# Altium integrated library Actel ACT 2.IntLib: 87 symbols (part 3 of 5)
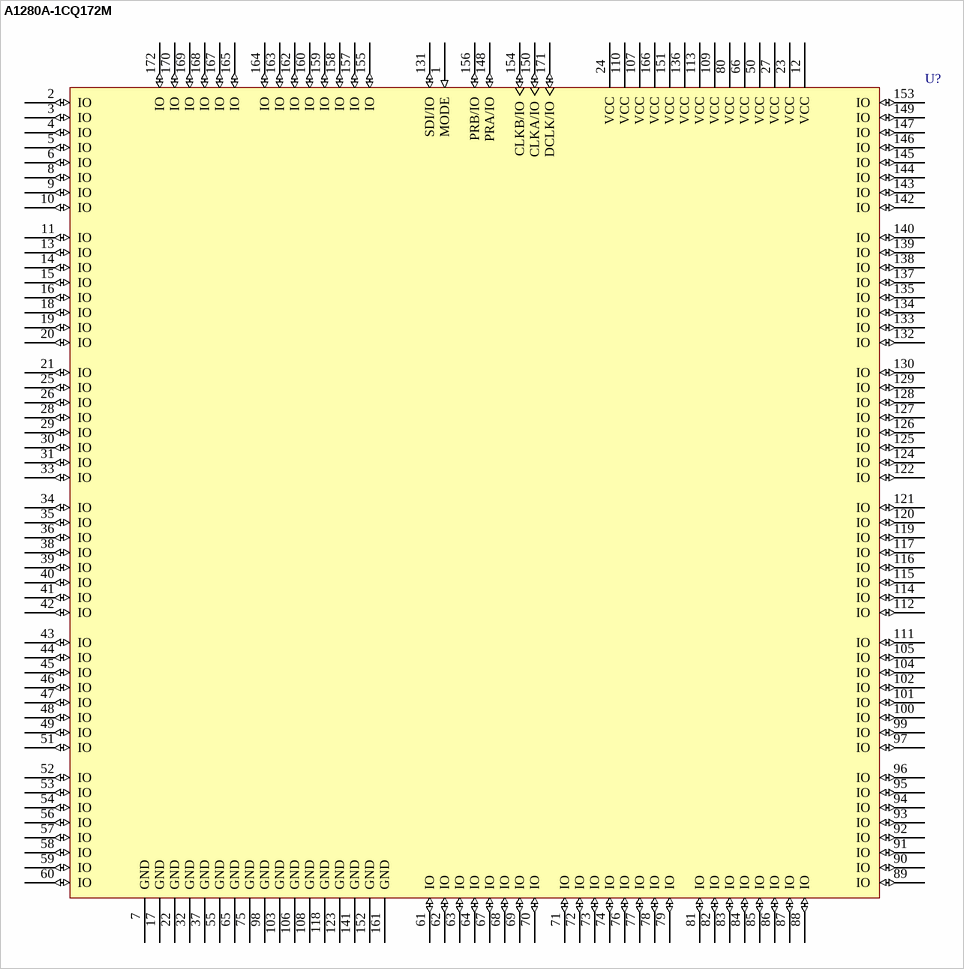
[diagram p63: symbol A1280A-1CQ172M]

## A1280A-1CQ172M
designator U?
ACT 2 Series 5V FPGA, 140 User I/Os, 172 pin CQFP, Speed Grade 1, Military Grade; Published: 24-Nov-2000; LatestRevisionDate: 13-Apr-2006; LatestRevisionNote: IPC-7351 Footprint Added.; DatasheetVersion: ver4.0.1, Dec-2000; PackageVersion: v9.2, Apr-2006; PackageReference: CQ172; Publisher: Altium Limited; PackageDescription: 172-Pin Ceramic Quad Flat Pack (CQFP); Code_JEDEC: MO-113-AE; ComponentLink1Description: Manufacturer Link; ComponentLink1URL: http://www.actel.com/; ComponentLink2Description: DataSheet; ComponentLink2URL: http://www.actel.com/documents/ACT2DS.pdf
footprint CQ172_N (CQFP, 172-Leads, Body 30x30mm; Pitch 0.635mm, Gullwing Leadform, IPC Medium Density)
footprint CQ172_L (CQFP, 172-Leads, Body 30x30mm; Pitch 0.635mm, Gullwing Leadform, IPC High Density)
footprint CQ172_M (CQFP, 172-Leads, Body 30x30mm; Pitch 0.635mm, Gullwing Leadform, IPC Low Density)
3D model A1280A-CQ172 (172-Pin Ceramic Quad Flat Pack (CQFP))
pins: 1 MODE (in), 2 IO (io), 3 IO (io), 4 IO (io), 5 IO (io), 6 IO (io), 7 GND (power), 8 IO (io), 9 IO (io), 10 IO (io), 11 IO (io), 12 VCC (power), 13 IO (io), 14 IO (io), 15 IO (io), 16 IO (io), 17 GND (power), 18 IO (io), 19 IO (io), 20 IO (io), 21 IO (io), 22 GND (power), 23 VCC (power), 24 VCC (power), 25 IO (io), 26 IO (io), 27 VCC (power), 28 IO (io), 29 IO (io), 30 IO (io), 31 IO (io), 32 GND (power), 33 IO (io), 34 IO (io), 35 IO (io), 36 IO (io), 37 GND (power), 38 IO (io), 39 IO (io), 40 IO (io), 41 IO (io), 42 IO (io), 43 IO (io), 44 IO (io), 45 IO (io), 46 IO (io), 47 IO (io), 48 IO (io), 49 IO (io), 50 VCC (power), 51 IO (io), 52 IO (io), 53 IO (io), 54 IO (io), 55 GND (power), 56 IO (io), 57 IO (io), 58 IO (io), 59 IO (io), 60 IO (io), 61 IO (io), 62 IO (io), 63 IO (io), 64 IO (io), 65 GND (power), 66 VCC (power), 67 IO (io), 68 IO (io), 69 IO (io), 70 IO (io), 71 IO (io), 72 IO (io), 73 IO (io), 74 IO (io), 75 GND (power), 76 IO (io), 77 IO (io), 78 IO (io), 79 IO (io), 80 VCC (power), 81 IO (io), 82 IO (io), 83 IO (io), 84 IO (io), 85 IO (io), 86 IO (io), 87 IO (io), 88 IO (io), 89 IO (io), 90 IO (io), 91 IO (io), 92 IO (io), 93 IO (io), 94 IO (io), 95 IO (io), 96 IO (io), 97 IO (io), 98 GND (power), 99 IO (io), 100 IO (io), 101 IO (io), 102 IO (io), 103 GND (power), 104 IO (io), 105 IO (io), 106 GND (power), 107 VCC (power), 108 GND (power), 109 VCC (power), 110 VCC (power), 111 IO (io), 112 IO (io), 113 VCC (power), 114 IO (io), 115 IO (io), 116 IO (io), 117 IO (io), 118 GND (power), 119 IO (io), 120 IO (io), 121 IO (io), 122 IO (io), 123 GND (power), 124 IO (io), 125 IO (io), 126 IO (io), 127 IO (io), 128 IO (io), 129 IO (io), 130 IO (io), 131 SDI/IO (io), 132 IO (io), 133 IO (io), 134 IO (io), 135 IO (io), 136 VCC (power), 137 IO (io), 138 IO (io), 139 IO (io), 140 IO (io), 141 GND (power), 142 IO (io), 143 IO (io), 144 IO (io), 145 IO (io), 146 IO (io), 147 IO (io), 148 PRA/IO (io), 149 IO (io), 150 CLKA/IO (io), 151 VCC (power), 152 GND (power), 153 IO (io), 154 CLKB/IO (io), 155 IO (io), 156 PRB/IO (io), 157 IO (io), 158 IO (io), 159 IO (io), 160 IO (io), 161 GND (power), 162 IO (io), 163 IO (io), 164 IO (io), 165 IO (io), 166 VCC (power), 167 IO (io), 168 IO (io), 169 IO (io), 170 IO (io), 171 DCLK/IO (io), 172 IO (io)

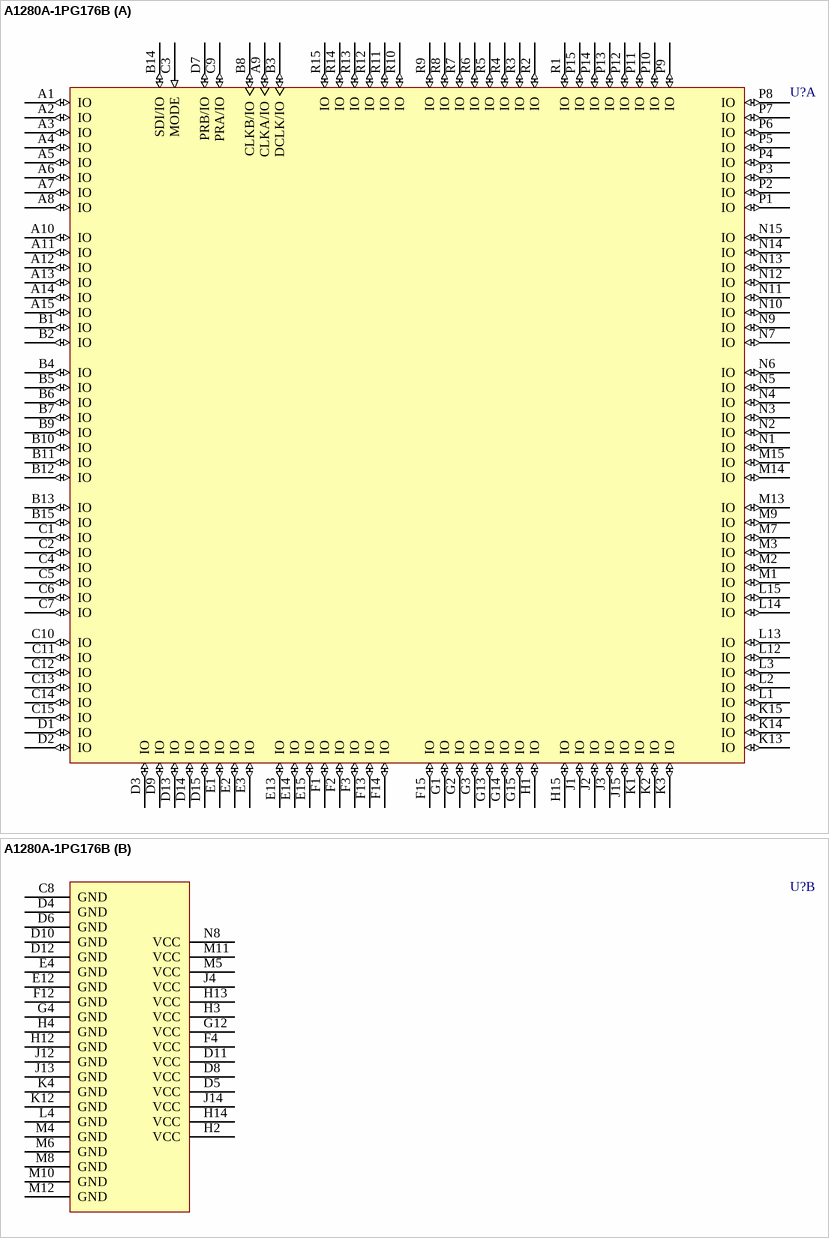
[diagram p21: symbol A1280A-1PG176B]

## A1280A-1PG176B
designator U?
ACT 2 Series 5V FPGA, 140 User I/Os, 176 pin CPGA, Speed Grade 1, MIL-STD-883 Grade; Published: 24-Nov-2000; LatestRevisionDate: 04-Mar-2005; LatestRevisionNote: Stylized 3D Model Added.; DatasheetVersion: ver4.0.1, Dec-2000; PackageVersion: v9.2, Apr-2006; PackageReference: PG176; Publisher: Altium Limited; PackageDescription: 176-Pin Ceramic Pin Grid Array (PG176); ComponentLink1Description: Manufacturer Link; ComponentLink1URL: http://www.actel.com/; ComponentLink2Description: DataSheet; ComponentLink2URL: http://www.actel.com/documents/ACT2DS.pdf
footprint PG176 (PGA, 176-Leads, Body 39.9x39.9mm, Pitch 2.54mm)
3D model A1280A-PG176 (176-Pin Ceramic Pin Grid Array (PG176))
part A pins: A1 IO (io), A2 IO (io), A3 IO (io), A4 IO (io), A5 IO (io), A6 IO (io), A7 IO (io), A8 IO (io), A9 CLKA/IO (io), A10 IO (io), A11 IO (io), A12 IO (io), A13 IO (io), A14 IO (io), A15 IO (io), B1 IO (io), B2 IO (io), B3 DCLK/IO (io), B4 IO (io), B5 IO (io), B6 IO (io), B7 IO (io), B8 CLKB/IO (io), B9 IO (io), B10 IO (io), B11 IO (io), B12 IO (io), B13 IO (io), B14 SDI/IO (io), B15 IO (io), C1 IO (io), C2 IO (io), C3 MODE (in), C4 IO (io), C5 IO (io), C6 IO (io), C7 IO (io), C9 PRA/IO (io), C10 IO (io), C11 IO (io), C12 IO (io), C13 IO (io), C14 IO (io), C15 IO (io), D1 IO (io), D2 IO (io), D3 IO (io), D7 PRB/IO (io), D9 IO (io), D13 IO (io), D14 IO (io), D15 IO (io), E1 IO (io), E2 IO (io), E3 IO (io), E13 IO (io), E14 IO (io), E15 IO (io), F1 IO (io), F2 IO (io), F3 IO (io), F13 IO (io), F14 IO (io), F15 IO (io), G1 IO (io), G2 IO (io), G3 IO (io), G13 IO (io), G14 IO (io), G15 IO (io), H1 IO (io), H15 IO (io), J1 IO (io), J2 IO (io), J3 IO (io), J15 IO (io), K1 IO (io), K2 IO (io), K3 IO (io), K13 IO (io), K14 IO (io), K15 IO (io), L1 IO (io), L2 IO (io), L3 IO (io), L12 IO (io), L13 IO (io), L14 IO (io), L15 IO (io), M1 IO (io), M2 IO (io), M3 IO (io), M7 IO (io), M9 IO (io), M13 IO (io), M14 IO (io), M15 IO (io), N1 IO (io), N2 IO (io), N3 IO (io), N4 IO (io), N5 IO (io), N6 IO (io), N7 IO (io), N9 IO (io), N10 IO (io), N11 IO (io), N12 IO (io), N13 IO (io), N14 IO (io), N15 IO (io), P1 IO (io), P2 IO (io), P3 IO (io), P4 IO (io), P5 IO (io), P6 IO (io), P7 IO (io), P8 IO (io), P9 IO (io), P10 IO (io), P11 IO (io), P12 IO (io), P13 IO (io), P14 IO (io), P15 IO (io), R1 IO (io), R2 IO (io), R3 IO (io), R4 IO (io), R5 IO (io), R6 IO (io), R7 IO (io), R8 IO (io), R9 IO (io), R10 IO (io), R11 IO (io), R12 IO (io), R13 IO (io), R14 IO (io), R15 IO (io)
part B pins: C8 GND (power), D4 GND (power), D5 VCC (power), D6 GND (power), D8 VCC (power), D10 GND (power), D11 VCC (power), D12 GND (power), E4 GND (power), E12 GND (power), F4 VCC (power), F12 GND (power), G4 GND (power), G12 VCC (power), H2 VCC (power), H3 VCC (power), H4 GND (power), H12 GND (power), H13 VCC (power), H14 VCC (power), J4 VCC (power), J12 GND (power), J13 GND (power), J14 VCC (power), K4 GND (power), K12 GND (power), L4 GND (power), M4 GND (power), M5 VCC (power), M6 GND (power), M8 GND (power), M10 GND (power), M11 VCC (power), M12 GND (power), N8 VCC (power)

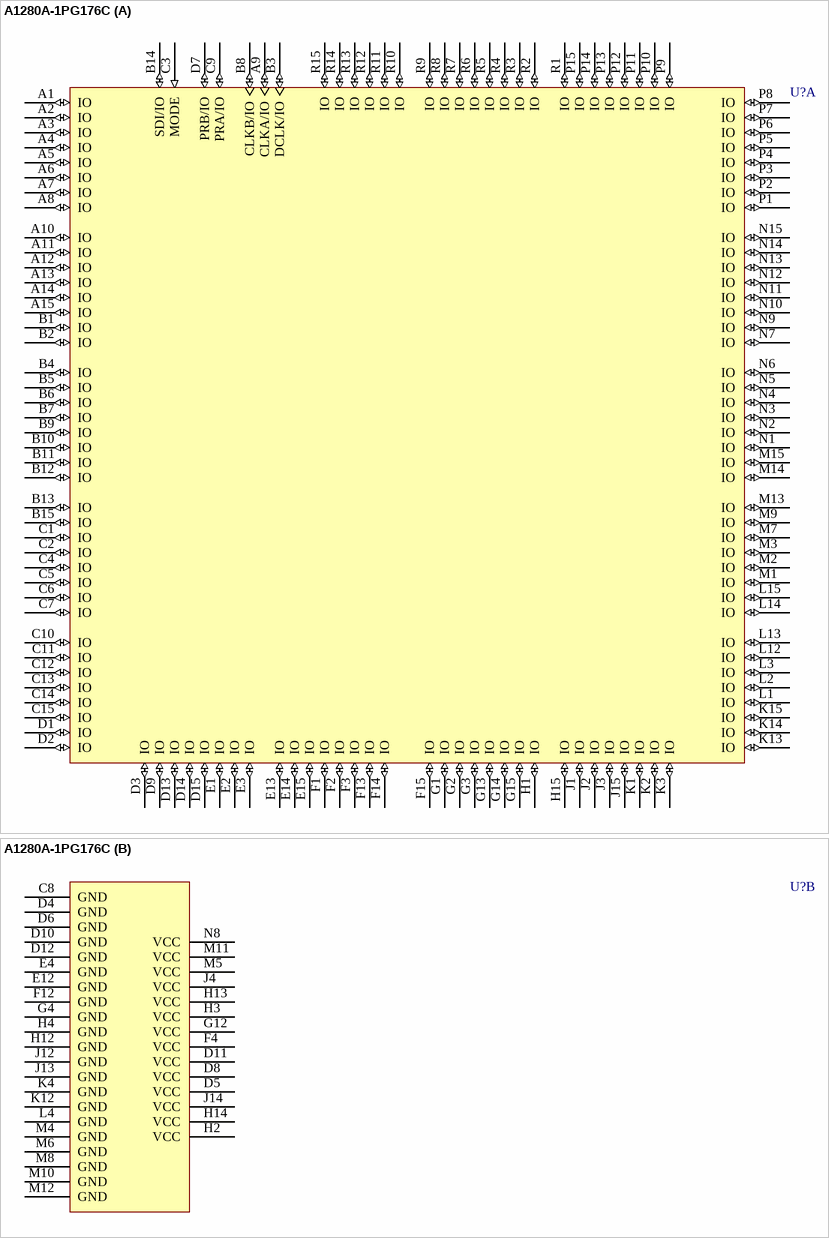
[diagram p22: symbol A1280A-1PG176C]

## A1280A-1PG176C
designator U?
ACT 2 Series 5V FPGA, 140 User I/Os, 176 pin CPGA, Speed Grade 1, Commercial Grade; Published: 24-Nov-2000; LatestRevisionDate: 04-Mar-2005; LatestRevisionNote: Stylized 3D Model Added.; DatasheetVersion: ver4.0.1, Dec-2000; PackageVersion: v9.2, Apr-2006; PackageReference: PG176; Publisher: Altium Limited; PackageDescription: 176-Pin Ceramic Pin Grid Array (PG176); ComponentLink1Description: Manufacturer Link; ComponentLink1URL: http://www.actel.com/; ComponentLink2Description: DataSheet; ComponentLink2URL: http://www.actel.com/documents/ACT2DS.pdf
footprint PG176 (PGA, 176-Leads, Body 39.9x39.9mm, Pitch 2.54mm)
3D model A1280A-PG176 (176-Pin Ceramic Pin Grid Array (PG176))
part A pins: A1 IO (io), A2 IO (io), A3 IO (io), A4 IO (io), A5 IO (io), A6 IO (io), A7 IO (io), A8 IO (io), A9 CLKA/IO (io), A10 IO (io), A11 IO (io), A12 IO (io), A13 IO (io), A14 IO (io), A15 IO (io), B1 IO (io), B2 IO (io), B3 DCLK/IO (io), B4 IO (io), B5 IO (io), B6 IO (io), B7 IO (io), B8 CLKB/IO (io), B9 IO (io), B10 IO (io), B11 IO (io), B12 IO (io), B13 IO (io), B14 SDI/IO (io), B15 IO (io), C1 IO (io), C2 IO (io), C3 MODE (in), C4 IO (io), C5 IO (io), C6 IO (io), C7 IO (io), C9 PRA/IO (io), C10 IO (io), C11 IO (io), C12 IO (io), C13 IO (io), C14 IO (io), C15 IO (io), D1 IO (io), D2 IO (io), D3 IO (io), D7 PRB/IO (io), D9 IO (io), D13 IO (io), D14 IO (io), D15 IO (io), E1 IO (io), E2 IO (io), E3 IO (io), E13 IO (io), E14 IO (io), E15 IO (io), F1 IO (io), F2 IO (io), F3 IO (io), F13 IO (io), F14 IO (io), F15 IO (io), G1 IO (io), G2 IO (io), G3 IO (io), G13 IO (io), G14 IO (io), G15 IO (io), H1 IO (io), H15 IO (io), J1 IO (io), J2 IO (io), J3 IO (io), J15 IO (io), K1 IO (io), K2 IO (io), K3 IO (io), K13 IO (io), K14 IO (io), K15 IO (io), L1 IO (io), L2 IO (io), L3 IO (io), L12 IO (io), L13 IO (io), L14 IO (io), L15 IO (io), M1 IO (io), M2 IO (io), M3 IO (io), M7 IO (io), M9 IO (io), M13 IO (io), M14 IO (io), M15 IO (io), N1 IO (io), N2 IO (io), N3 IO (io), N4 IO (io), N5 IO (io), N6 IO (io), N7 IO (io), N9 IO (io), N10 IO (io), N11 IO (io), N12 IO (io), N13 IO (io), N14 IO (io), N15 IO (io), P1 IO (io), P2 IO (io), P3 IO (io), P4 IO (io), P5 IO (io), P6 IO (io), P7 IO (io), P8 IO (io), P9 IO (io), P10 IO (io), P11 IO (io), P12 IO (io), P13 IO (io), P14 IO (io), P15 IO (io), R1 IO (io), R2 IO (io), R3 IO (io), R4 IO (io), R5 IO (io), R6 IO (io), R7 IO (io), R8 IO (io), R9 IO (io), R10 IO (io), R11 IO (io), R12 IO (io), R13 IO (io), R14 IO (io), R15 IO (io)
part B pins: C8 GND (power), D4 GND (power), D5 VCC (power), D6 GND (power), D8 VCC (power), D10 GND (power), D11 VCC (power), D12 GND (power), E4 GND (power), E12 GND (power), F4 VCC (power), F12 GND (power), G4 GND (power), G12 VCC (power), H2 VCC (power), H3 VCC (power), H4 GND (power), H12 GND (power), H13 VCC (power), H14 VCC (power), J4 VCC (power), J12 GND (power), J13 GND (power), J14 VCC (power), K4 GND (power), K12 GND (power), L4 GND (power), M4 GND (power), M5 VCC (power), M6 GND (power), M8 GND (power), M10 GND (power), M11 VCC (power), M12 GND (power), N8 VCC (power)

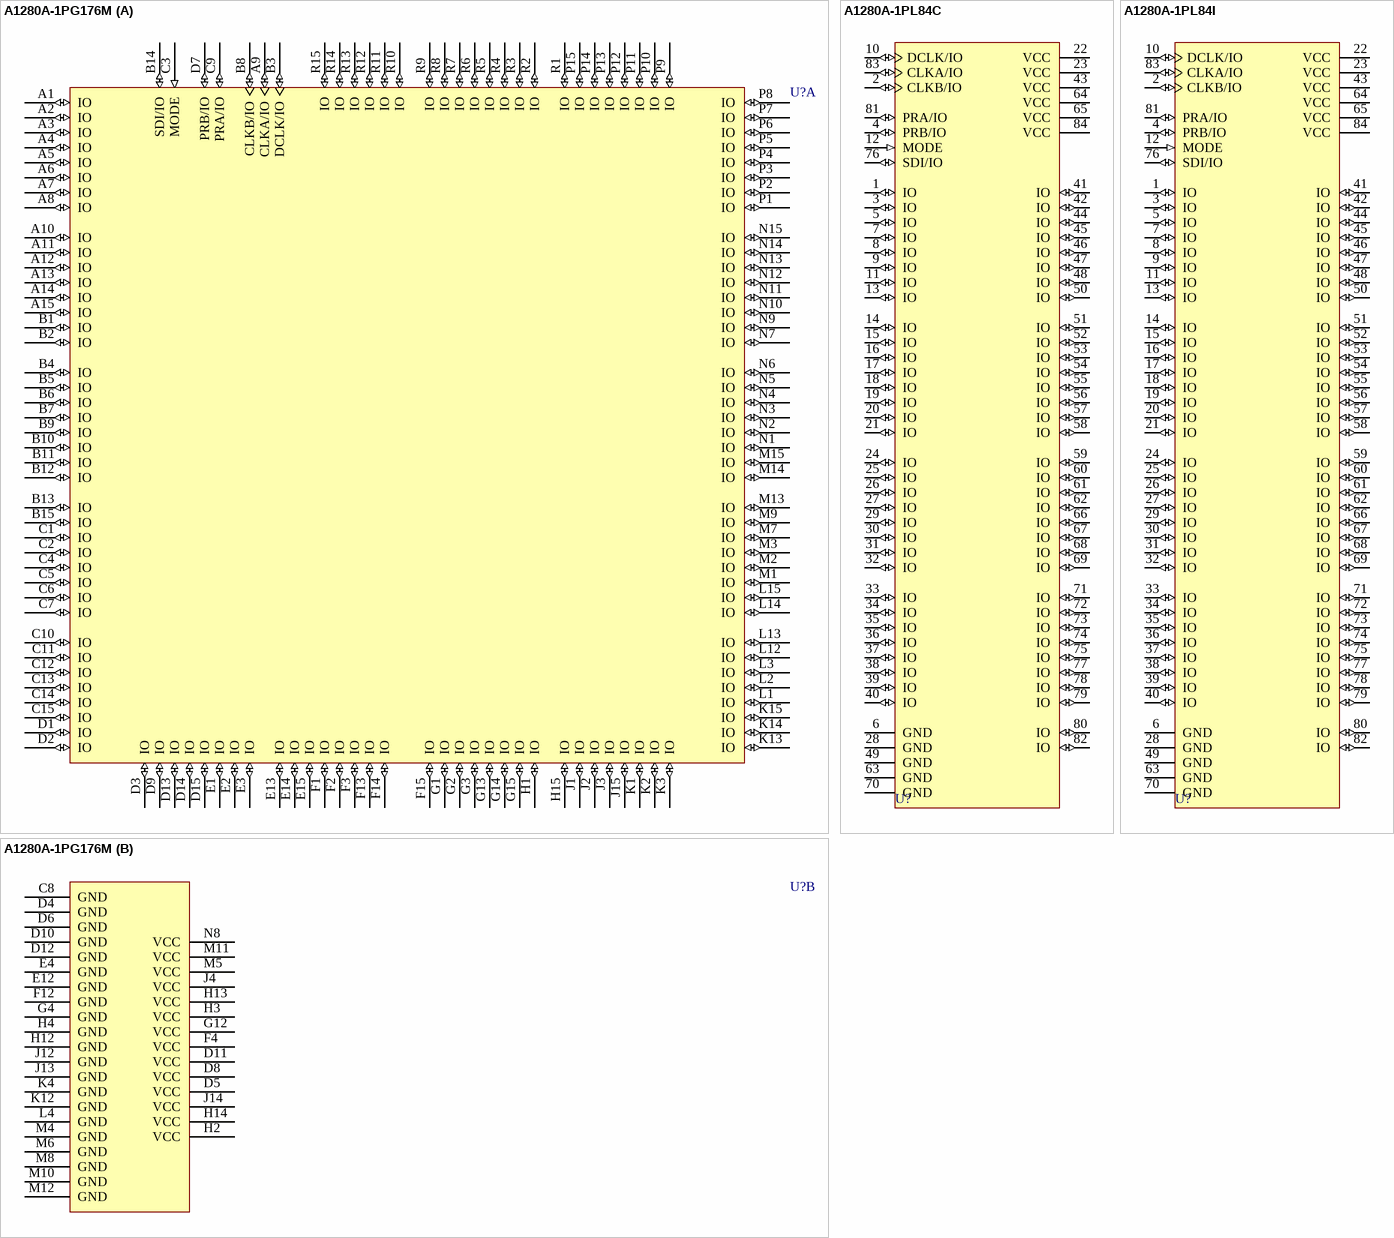
[diagram p23: symbols A1280A-1PG176M to A1280A-1PL84I]

## A1280A-1PG176M
designator U?
ACT 2 Series 5V FPGA, 140 User I/Os, 176 pin CPGA, Speed Grade 1, Military Grade; Published: 24-Nov-2000; LatestRevisionDate: 04-Mar-2005; LatestRevisionNote: Stylized 3D Model Added.; DatasheetVersion: ver4.0.1, Dec-2000; PackageVersion: v9.2, Apr-2006; PackageReference: PG176; Publisher: Altium Limited; PackageDescription: 176-Pin Ceramic Pin Grid Array (PG176); ComponentLink1Description: Manufacturer Link; ComponentLink1URL: http://www.actel.com/; ComponentLink2Description: DataSheet; ComponentLink2URL: http://www.actel.com/documents/ACT2DS.pdf
footprint PG176 (PGA, 176-Leads, Body 39.9x39.9mm, Pitch 2.54mm)
3D model A1280A-PG176 (176-Pin Ceramic Pin Grid Array (PG176))
part A pins: A1 IO (io), A2 IO (io), A3 IO (io), A4 IO (io), A5 IO (io), A6 IO (io), A7 IO (io), A8 IO (io), A9 CLKA/IO (io), A10 IO (io), A11 IO (io), A12 IO (io), A13 IO (io), A14 IO (io), A15 IO (io), B1 IO (io), B2 IO (io), B3 DCLK/IO (io), B4 IO (io), B5 IO (io), B6 IO (io), B7 IO (io), B8 CLKB/IO (io), B9 IO (io), B10 IO (io), B11 IO (io), B12 IO (io), B13 IO (io), B14 SDI/IO (io), B15 IO (io), C1 IO (io), C2 IO (io), C3 MODE (in), C4 IO (io), C5 IO (io), C6 IO (io), C7 IO (io), C9 PRA/IO (io), C10 IO (io), C11 IO (io), C12 IO (io), C13 IO (io), C14 IO (io), C15 IO (io), D1 IO (io), D2 IO (io), D3 IO (io), D7 PRB/IO (io), D9 IO (io), D13 IO (io), D14 IO (io), D15 IO (io), E1 IO (io), E2 IO (io), E3 IO (io), E13 IO (io), E14 IO (io), E15 IO (io), F1 IO (io), F2 IO (io), F3 IO (io), F13 IO (io), F14 IO (io), F15 IO (io), G1 IO (io), G2 IO (io), G3 IO (io), G13 IO (io), G14 IO (io), G15 IO (io), H1 IO (io), H15 IO (io), J1 IO (io), J2 IO (io), J3 IO (io), J15 IO (io), K1 IO (io), K2 IO (io), K3 IO (io), K13 IO (io), K14 IO (io), K15 IO (io), L1 IO (io), L2 IO (io), L3 IO (io), L12 IO (io), L13 IO (io), L14 IO (io), L15 IO (io), M1 IO (io), M2 IO (io), M3 IO (io), M7 IO (io), M9 IO (io), M13 IO (io), M14 IO (io), M15 IO (io), N1 IO (io), N2 IO (io), N3 IO (io), N4 IO (io), N5 IO (io), N6 IO (io), N7 IO (io), N9 IO (io), N10 IO (io), N11 IO (io), N12 IO (io), N13 IO (io), N14 IO (io), N15 IO (io), P1 IO (io), P2 IO (io), P3 IO (io), P4 IO (io), P5 IO (io), P6 IO (io), P7 IO (io), P8 IO (io), P9 IO (io), P10 IO (io), P11 IO (io), P12 IO (io), P13 IO (io), P14 IO (io), P15 IO (io), R1 IO (io), R2 IO (io), R3 IO (io), R4 IO (io), R5 IO (io), R6 IO (io), R7 IO (io), R8 IO (io), R9 IO (io), R10 IO (io), R11 IO (io), R12 IO (io), R13 IO (io), R14 IO (io), R15 IO (io)
part B pins: C8 GND (power), D4 GND (power), D5 VCC (power), D6 GND (power), D8 VCC (power), D10 GND (power), D11 VCC (power), D12 GND (power), E4 GND (power), E12 GND (power), F4 VCC (power), F12 GND (power), G4 GND (power), G12 VCC (power), H2 VCC (power), H3 VCC (power), H4 GND (power), H12 GND (power), H13 VCC (power), H14 VCC (power), J4 VCC (power), J12 GND (power), J13 GND (power), J14 VCC (power), K4 GND (power), K12 GND (power), L4 GND (power), M4 GND (power), M5 VCC (power), M6 GND (power), M8 GND (power), M10 GND (power), M11 VCC (power), M12 GND (power), N8 VCC (power)

## A1280A-1PL84C
designator U?
ACT 2 Series 5V FPGA, 72 User I/Os, 84 pin PLCC, Speed Grade 1, Commercial Grade; Note: {VPP=VCC, VSC=VCC, VKS=GND} except during device programming; MODE = GND, except during device programming or debugging.; Published: 24-Nov-2000; LatestRevisionDate: 13-Apr-2006; LatestRevisionNote: IPC-7351 Footprint Added.; DatasheetVersion: May-1995; PackageVersion: v9.2, Apr-2006; PackageReference: PL84; Publisher: Altium Limited; PackageDescription: 84-Pin Plastic Leaded Chip Carrier (PL84); Code_JEDEC: MS-018-AF; Code_IPC: PLCC-84; ComponentLink1Description: Manufacturer Link; ComponentLink1URL: http://www.actel.com/
footprint PL84_N (Leaded Chip Carrier, 84-Leads, Body 29.3x29.3mm, Pitch 1.27mm, IPC Medium Density)
footprint PL84_L (Leaded Chip Carrier, 84-Leads, Body 29.3x29.3mm, Pitch 1.27mm, IPC High Density)
footprint PL84_M (Leaded Chip Carrier, 84-Leads, Body 29.3x29.3mm, Pitch 1.27mm, IPC Low Density)
3D model A1280A-PL84 (84-Pin Plastic Leaded Chip Carrier (PL84))
pins: 1 IO (io), 2 CLKB/IO (io), 3 IO (io), 4 PRB/IO (io), 5 IO (io), 6 GND (power), 7 IO (io), 8 IO (io), 9 IO (io), 10 DCLK/IO (io), 11 IO (io), 12 MODE (in), 13 IO (io), 14 IO (io), 15 IO (io), 16 IO (io), 17 IO (io), 18 IO (io), 19 IO (io), 20 IO (io), 21 IO (io), 22 VCC (power), 23 VCC (power), 24 IO (io), 25 IO (io), 26 IO (io), 27 IO (io), 28 GND (power), 29 IO (io), 30 IO (io), 31 IO (io), 32 IO (io), 33 IO (io), 34 IO (io), 35 IO (io), 36 IO (io), 37 IO (io), 38 IO (io), 39 IO (io), 40 IO (io), 41 IO (io), 42 IO (io), 43 VCC (power), 44 IO (io), 45 IO (io), 46 IO (io), 47 IO (io), 48 IO (io), 49 GND (power), 50 IO (io), 51 IO (io), 52 IO (io), 53 IO (io), 54 IO (io), 55 IO (io), 56 IO (io), 57 IO (io), 58 IO (io), 59 IO (io), 60 IO (io), 61 IO (io), 62 IO (io), 63 GND (power), 64 VCC (power), 65 VCC (power), 66 IO (io), 67 IO (io), 68 IO (io), 69 IO (io), 70 GND (power), 71 IO (io), 72 IO (io), 73 IO (io), 74 IO (io), 75 IO (io), 76 SDI/IO (io), 77 IO (io), 78 IO (io), 79 IO (io), 80 IO (io), 81 PRA/IO (io), 82 IO (io), 83 CLKA/IO (io), 84 VCC (power)

## A1280A-1PL84I
designator U?
ACT 2 Series 5V FPGA, 72 User I/Os, 84 pin PLCC, Speed Grade 1, Industrial Grade; Note: {VPP=VCC, VSC=VCC, VKS=GND} except during device programming; MODE = GND, except during device programming or debugging.; Published: 24-Nov-2000; LatestRevisionDate: 13-Apr-2006; LatestRevisionNote: IPC-7351 Footprint Added.; DatasheetVersion: May-1995; PackageVersion: v9.2, Apr-2006; PackageReference: PL84; Publisher: Altium Limited; PackageDescription: 84-Pin Plastic Leaded Chip Carrier (PL84); Code_JEDEC: MS-018-AF; Code_IPC: PLCC-84; ComponentLink1Description: Manufacturer Link; ComponentLink1URL: http://www.actel.com/
footprint PL84_N (Leaded Chip Carrier, 84-Leads, Body 29.3x29.3mm, Pitch 1.27mm, IPC Medium Density)
footprint PL84_L (Leaded Chip Carrier, 84-Leads, Body 29.3x29.3mm, Pitch 1.27mm, IPC High Density)
footprint PL84_M (Leaded Chip Carrier, 84-Leads, Body 29.3x29.3mm, Pitch 1.27mm, IPC Low Density)
3D model A1280A-PL84 (84-Pin Plastic Leaded Chip Carrier (PL84))
pins: 1 IO (io), 2 CLKB/IO (io), 3 IO (io), 4 PRB/IO (io), 5 IO (io), 6 GND (power), 7 IO (io), 8 IO (io), 9 IO (io), 10 DCLK/IO (io), 11 IO (io), 12 MODE (in), 13 IO (io), 14 IO (io), 15 IO (io), 16 IO (io), 17 IO (io), 18 IO (io), 19 IO (io), 20 IO (io), 21 IO (io), 22 VCC (power), 23 VCC (power), 24 IO (io), 25 IO (io), 26 IO (io), 27 IO (io), 28 GND (power), 29 IO (io), 30 IO (io), 31 IO (io), 32 IO (io), 33 IO (io), 34 IO (io), 35 IO (io), 36 IO (io), 37 IO (io), 38 IO (io), 39 IO (io), 40 IO (io), 41 IO (io), 42 IO (io), 43 VCC (power), 44 IO (io), 45 IO (io), 46 IO (io), 47 IO (io), 48 IO (io), 49 GND (power), 50 IO (io), 51 IO (io), 52 IO (io), 53 IO (io), 54 IO (io), 55 IO (io), 56 IO (io), 57 IO (io), 58 IO (io), 59 IO (io), 60 IO (io), 61 IO (io), 62 IO (io), 63 GND (power), 64 VCC (power), 65 VCC (power), 66 IO (io), 67 IO (io), 68 IO (io), 69 IO (io), 70 GND (power), 71 IO (io), 72 IO (io), 73 IO (io), 74 IO (io), 75 IO (io), 76 SDI/IO (io), 77 IO (io), 78 IO (io), 79 IO (io), 80 IO (io), 81 PRA/IO (io), 82 IO (io), 83 CLKA/IO (io), 84 VCC (power)

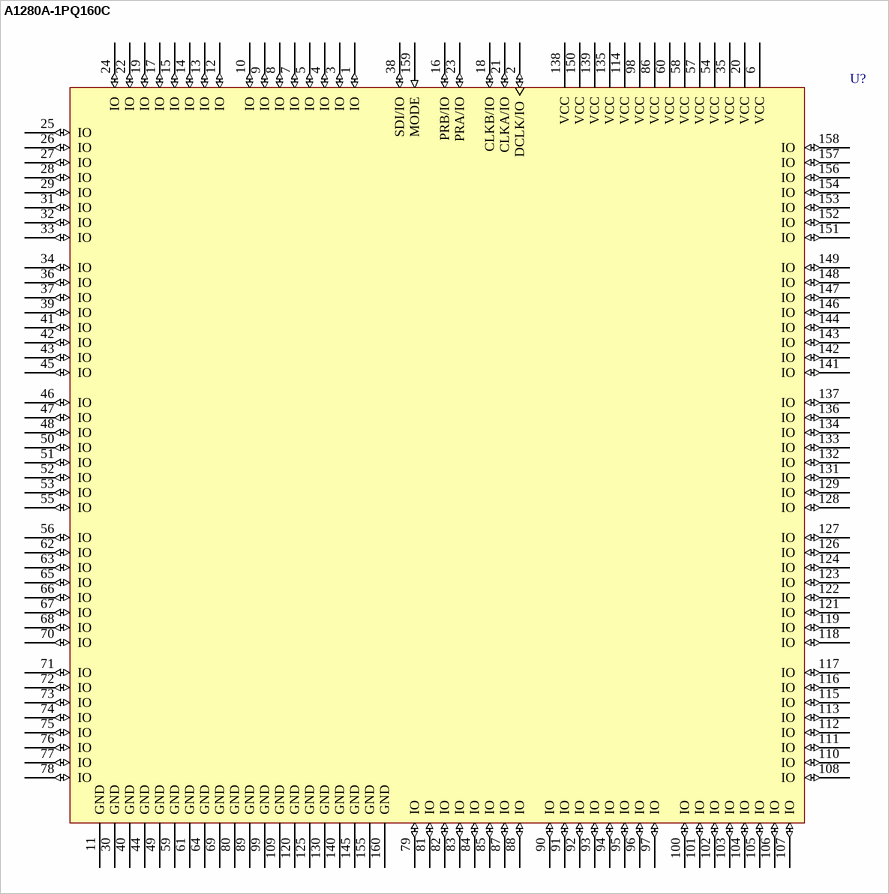
[diagram p24: symbol A1280A-1PQ160C]

## A1280A-1PQ160C
designator U?
ACT 2 Series 5V FPGA, 125 User I/Os, 160 pin PQFP, Speed Grade 1, Commercial Grade; Published: 24-Nov-2000; LatestRevisionDate: 13-Apr-2006; LatestRevisionNote: IPC-7351 Footprint Added.; DatasheetVersion: ver4.0.1, Dec-2000; PackageVersion: v9.2, Apr-2006; PackageReference: PQ160; Publisher: Altium Limited; PackageDescription: 160-Pin Plastic Quad Flat Pack (PQ160); Code_JEDEC: MS-022-DD-1; Code_IPC: QFP65P3120X3120-160; ComponentLink1Description: Manufacturer Link; ComponentLink1URL: http://www.actel.com/; ComponentLink2Description: DataSheet; ComponentLink2URL: http://www.actel.com/documents/ACT2DS.pdf
footprint PQ160_N (QFP, 160-Leads, Body 28 x 28mm, Pitch 0.65mm, IPC Medium Density)
footprint PQ160_L (QFP, 160-Leads, Body 28 x 28mm, Pitch 0.65mm, IPC High Density)
footprint PQ160_M (QFP, 160-Leads, Body 28 x 28mm, Pitch 0.65mm, IPC Low Density)
3D model A1280A-PQ160 (160-Pin Plastic Quad Flat Pack (PQ160))
pins: 1 IO (io), 2 DCLK/IO (io), 3 IO (io), 4 IO (io), 5 IO (io), 6 VCC (power), 7 IO (io), 8 IO (io), 9 IO (io), 10 IO (io), 11 GND (power), 12 IO (io), 13 IO (io), 14 IO (io), 15 IO (io), 16 PRB/IO (io), 17 IO (io), 18 CLKB/IO (io), 19 IO (io), 20 VCC (power), 21 CLKA/IO (io), 22 IO (io), 23 PRA/IO (io), 24 IO (io), 25 IO (io), 26 IO (io), 27 IO (io), 28 IO (io), 29 IO (io), 30 GND (power), 31 IO (io), 32 IO (io), 33 IO (io), 34 IO (io), 35 VCC (power), 36 IO (io), 37 IO (io), 38 SDI/IO (io), 39 IO (io), 40 GND (power), 41 IO (io), 42 IO (io), 43 IO (io), 44 GND (power), 45 IO (io), 46 IO (io), 47 IO (io), 48 IO (io), 49 GND (power), 50 IO (io), 51 IO (io), 52 IO (io), 53 IO (io), 54 VCC (power), 55 IO (io), 56 IO (io), 57 VCC (power), 58 VCC (power), 59 GND (power), 60 VCC (power), 61 GND (power), 62 IO (io), 63 IO (io), 64 GND (power), 65 IO (io), 66 IO (io), 67 IO (io), 68 IO (io), 69 GND (power), 70 IO (io), 71 IO (io), 72 IO (io), 73 IO (io), 74 IO (io), 75 IO (io), 76 IO (io), 77 IO (io), 78 IO (io), 79 IO (io), 80 GND (power), 81 IO (io), 82 IO (io), 83 IO (io), 84 IO (io), 85 IO (io), 86 VCC (power), 87 IO (io), 88 IO (io), 89 GND (power), 90 IO (io), 91 IO (io), 92 IO (io), 93 IO (io), 94 IO (io), 95 IO (io), 96 IO (io), 97 IO (io), 98 VCC (power), 99 GND (power), 100 IO (io), 101 IO (io), 102 IO (io), 103 IO (io), 104 IO (io), 105 IO (io), 106 IO (io), 107 IO (io), 108 IO (io), 109 GND (power), 110 IO (io), 111 IO (io), 112 IO (io), 113 IO (io), 114 VCC (power), 115 IO (io), 116 IO (io), 117 IO (io), 118 IO (io), 119 IO (io), 120 GND (power), 121 IO (io), 122 IO (io), 123 IO (io), 124 IO (io), 125 GND (power), 126 IO (io), 127 IO (io), 128 IO (io), 129 IO (io), 130 GND (power), 131 IO (io), 132 IO (io), 133 IO (io), 134 IO (io), 135 VCC (power), 136 IO (io), 137 IO (io), 138 VCC (power), 139 VCC (power), 140 GND (power), 141 IO (io), 142 IO (io), 143 IO (io), 144 IO (io), 145 GND (power), 146 IO (io), 147 IO (io), 148 IO (io), 149 IO (io), 150 VCC (power), 151 IO (io), 152 IO (io), 153 IO (io), 154 IO (io), 155 GND (power), 156 IO (io), 157 IO (io), 158 IO (io), 159 MODE (in), 160 GND (power)

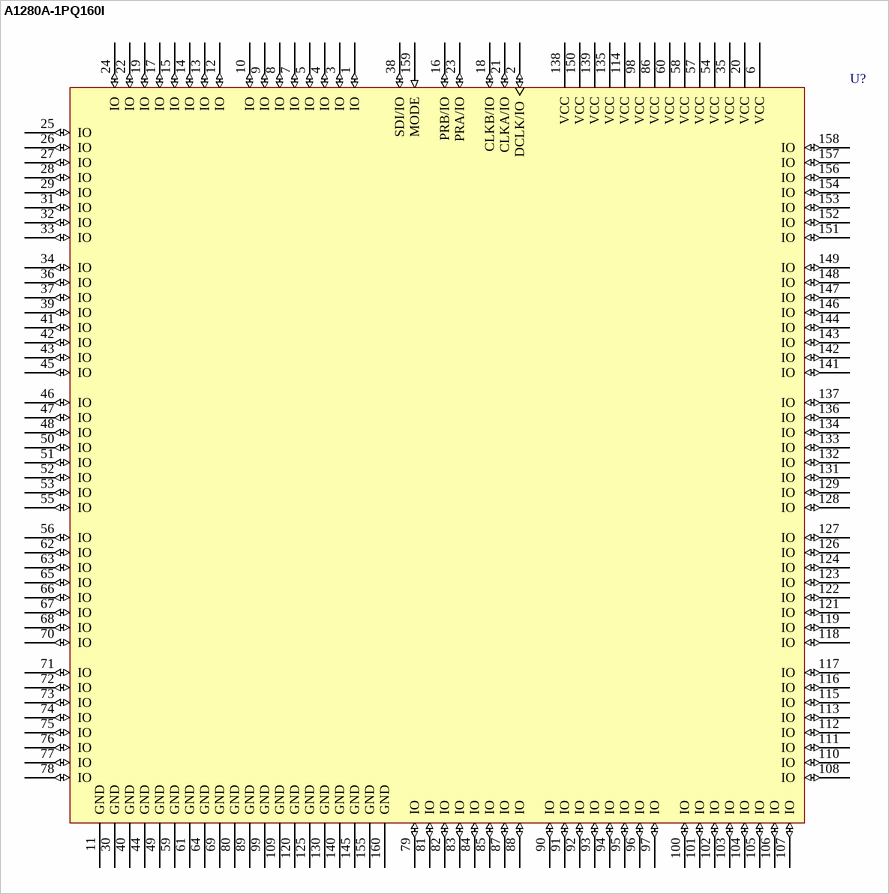
[diagram p25: symbol A1280A-1PQ160I]

## A1280A-1PQ160I
designator U?
ACT 2 Series 5V FPGA, 125 User I/Os, 160 pin PQFP, Speed Grade 1, Industrial Grade; Published: 24-Nov-2000; LatestRevisionDate: 13-Apr-2006; LatestRevisionNote: IPC-7351 Footprint Added.; DatasheetVersion: ver4.0.1, Dec-2000; PackageVersion: v9.2, Apr-2006; PackageReference: PQ160; Publisher: Altium Limited; PackageDescription: 160-Pin Plastic Quad Flat Pack (PQ160); Code_JEDEC: MS-022-DD-1; Code_IPC: QFP65P3120X3120-160; ComponentLink1Description: Manufacturer Link; ComponentLink1URL: http://www.actel.com/; ComponentLink2Description: DataSheet; ComponentLink2URL: http://www.actel.com/documents/ACT2DS.pdf
footprint PQ160_N (QFP, 160-Leads, Body 28 x 28mm, Pitch 0.65mm, IPC Medium Density)
footprint PQ160_L (QFP, 160-Leads, Body 28 x 28mm, Pitch 0.65mm, IPC High Density)
footprint PQ160_M (QFP, 160-Leads, Body 28 x 28mm, Pitch 0.65mm, IPC Low Density)
3D model A1280A-PQ160 (160-Pin Plastic Quad Flat Pack (PQ160))
pins: 1 IO (io), 2 DCLK/IO (io), 3 IO (io), 4 IO (io), 5 IO (io), 6 VCC (power), 7 IO (io), 8 IO (io), 9 IO (io), 10 IO (io), 11 GND (power), 12 IO (io), 13 IO (io), 14 IO (io), 15 IO (io), 16 PRB/IO (io), 17 IO (io), 18 CLKB/IO (io), 19 IO (io), 20 VCC (power), 21 CLKA/IO (io), 22 IO (io), 23 PRA/IO (io), 24 IO (io), 25 IO (io), 26 IO (io), 27 IO (io), 28 IO (io), 29 IO (io), 30 GND (power), 31 IO (io), 32 IO (io), 33 IO (io), 34 IO (io), 35 VCC (power), 36 IO (io), 37 IO (io), 38 SDI/IO (io), 39 IO (io), 40 GND (power), 41 IO (io), 42 IO (io), 43 IO (io), 44 GND (power), 45 IO (io), 46 IO (io), 47 IO (io), 48 IO (io), 49 GND (power), 50 IO (io), 51 IO (io), 52 IO (io), 53 IO (io), 54 VCC (power), 55 IO (io), 56 IO (io), 57 VCC (power), 58 VCC (power), 59 GND (power), 60 VCC (power), 61 GND (power), 62 IO (io), 63 IO (io), 64 GND (power), 65 IO (io), 66 IO (io), 67 IO (io), 68 IO (io), 69 GND (power), 70 IO (io), 71 IO (io), 72 IO (io), 73 IO (io), 74 IO (io), 75 IO (io), 76 IO (io), 77 IO (io), 78 IO (io), 79 IO (io), 80 GND (power), 81 IO (io), 82 IO (io), 83 IO (io), 84 IO (io), 85 IO (io), 86 VCC (power), 87 IO (io), 88 IO (io), 89 GND (power), 90 IO (io), 91 IO (io), 92 IO (io), 93 IO (io), 94 IO (io), 95 IO (io), 96 IO (io), 97 IO (io), 98 VCC (power), 99 GND (power), 100 IO (io), 101 IO (io), 102 IO (io), 103 IO (io), 104 IO (io), 105 IO (io), 106 IO (io), 107 IO (io), 108 IO (io), 109 GND (power), 110 IO (io), 111 IO (io), 112 IO (io), 113 IO (io), 114 VCC (power), 115 IO (io), 116 IO (io), 117 IO (io), 118 IO (io), 119 IO (io), 120 GND (power), 121 IO (io), 122 IO (io), 123 IO (io), 124 IO (io), 125 GND (power), 126 IO (io), 127 IO (io), 128 IO (io), 129 IO (io), 130 GND (power), 131 IO (io), 132 IO (io), 133 IO (io), 134 IO (io), 135 VCC (power), 136 IO (io), 137 IO (io), 138 VCC (power), 139 VCC (power), 140 GND (power), 141 IO (io), 142 IO (io), 143 IO (io), 144 IO (io), 145 GND (power), 146 IO (io), 147 IO (io), 148 IO (io), 149 IO (io), 150 VCC (power), 151 IO (io), 152 IO (io), 153 IO (io), 154 IO (io), 155 GND (power), 156 IO (io), 157 IO (io), 158 IO (io), 159 MODE (in), 160 GND (power)

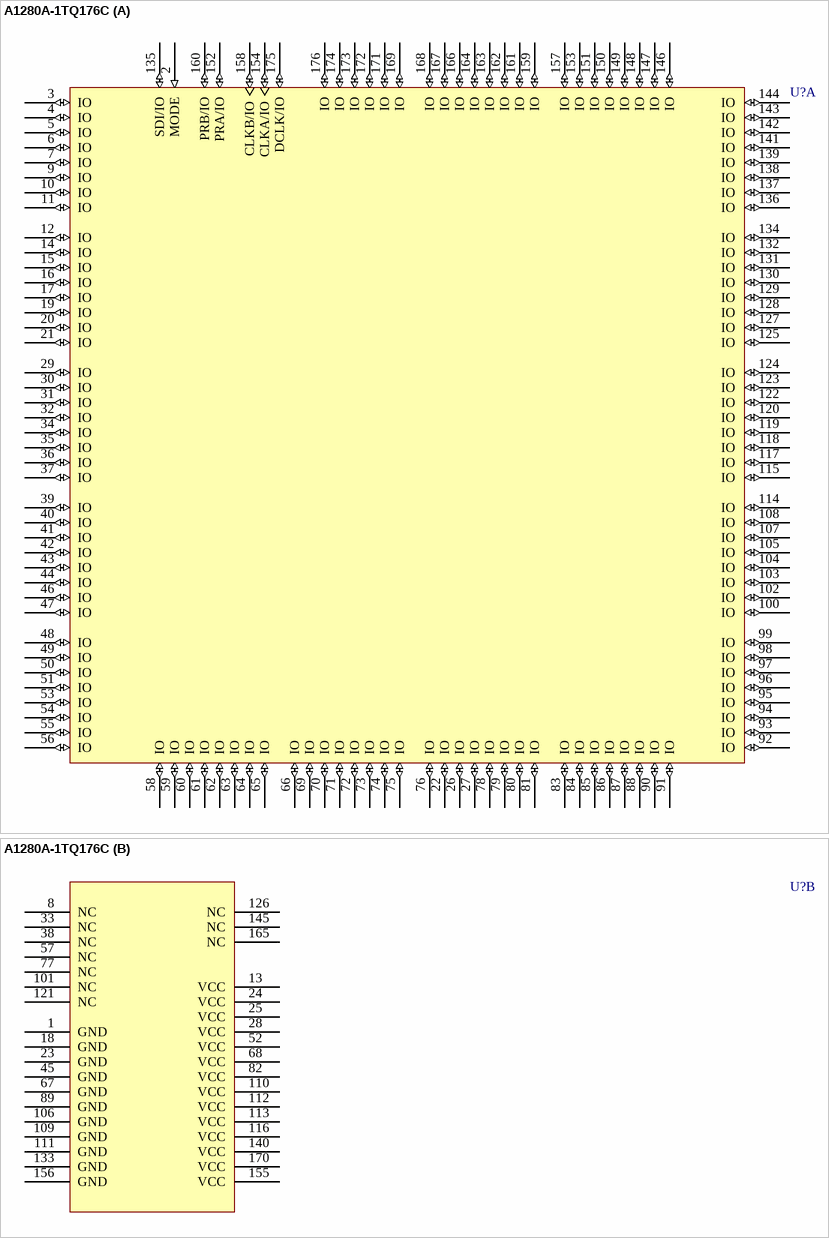
[diagram p26: symbol A1280A-1TQ176C]

## A1280A-1TQ176C
designator U?
ACT 2 Series 5V FPGA, 140 User I/Os, 176 pin TQFP, Speed Grade 1, Commercial Grade; Published: 24-Nov-2000; LatestRevisionDate: 13-Apr-2006; LatestRevisionNote: IPC-7351 Footprint Added.; DatasheetVersion: ver4.0.1, Dec-2000; PackageVersion: v9.2, Apr-2006; PackageReference: TQ176; Publisher: Altium Limited; PackageDescription: 176-Pin Plastic Quad Flat Pack (TQ176); Code_JEDEC: MS-026-BCA; ComponentLink1Description: Manufacturer Link; ComponentLink1URL: http://www.actel.com/; ComponentLink2Description: DataSheet; ComponentLink2URL: http://www.actel.com/documents/ACT2DS.pdf
footprint TQ176_N (Thin QFP, 176-Leads, Body 24x24mm, Pitch 0.5mm, IPC Medium Density)
footprint TQ176_L (Thin QFP, 176-Leads, Body 24x24mm, Pitch 0.5mm, IPC High Density)
footprint TQ176_M (Thin QFP, 176-Leads, Body 24x24mm, Pitch 0.5mm, IPC Low Density)
3D model A1280A-TQ176 (176-Pin Plastic Quad Flat Pack (TQ176))
part A pins: 2 MODE (in), 3 IO (io), 4 IO (io), 5 IO (io), 6 IO (io), 7 IO (io), 9 IO (io), 10 IO (io), 11 IO (io), 12 IO (io), 14 IO (io), 15 IO (io), 16 IO (io), 17 IO (io), 19 IO (io), 20 IO (io), 21 IO (io), 22 IO (io), 26 IO (io), 27 IO (io), 29 IO (io), 30 IO (io), 31 IO (io), 32 IO (io), 34 IO (io), 35 IO (io), 36 IO (io), 37 IO (io), 39 IO (io), 40 IO (io), 41 IO (io), 42 IO (io), 43 IO (io), 44 IO (io), 46 IO (io), 47 IO (io), 48 IO (io), 49 IO (io), 50 IO (io), 51 IO (io), 53 IO (io), 54 IO (io), 55 IO (io), 56 IO (io), 58 IO (io), 59 IO (io), 60 IO (io), 61 IO (io), 62 IO (io), 63 IO (io), 64 IO (io), 65 IO (io), 66 IO (io), 69 IO (io), 70 IO (io), 71 IO (io), 72 IO (io), 73 IO (io), 74 IO (io), 75 IO (io), 76 IO (io), 78 IO (io), 79 IO (io), 80 IO (io), 81 IO (io), 83 IO (io), 84 IO (io), 85 IO (io), 86 IO (io), 87 IO (io), 88 IO (io), 90 IO (io), 91 IO (io), 92 IO (io), 93 IO (io), 94 IO (io), 95 IO (io), 96 IO (io), 97 IO (io), 98 IO (io), 99 IO (io), 100 IO (io), 102 IO (io), 103 IO (io), 104 IO (io), 105 IO (io), 107 IO (io), 108 IO (io), 114 IO (io), 115 IO (io), 117 IO (io), 118 IO (io), 119 IO (io), 120 IO (io), 122 IO (io), 123 IO (io), 124 IO (io), 125 IO (io), 127 IO (io), 128 IO (io), 129 IO (io), 130 IO (io), 131 IO (io), 132 IO (io), 134 IO (io), 135 SDI/IO (io), 136 IO (io), 137 IO (io), 138 IO (io), 139 IO (io), 141 IO (io), 142 IO (io), 143 IO (io), 144 IO (io), 146 IO (io), 147 IO (io), 148 IO (io), 149 IO (io), 150 IO (io), 151 IO (io), 152 PRA/IO (io), 153 IO (io), 154 CLKA/IO (io), 157 IO (io), 158 CLKB/IO (io), 159 IO (io), 160 PRB/IO (io), 161 IO (io), 162 IO (io), 163 IO (io), 164 IO (io), 166 IO (io), 167 IO (io), 168 IO (io), 169 IO (io), 171 IO (io), 172 IO (io), 173 IO (io), 174 IO (io), 175 DCLK/IO (io), 176 IO (io)
part B pins: 1 GND (power), 8 NC, 13 VCC (power), 18 GND (power), 23 GND (power), 24 VCC (power), 25 VCC (power), 28 VCC (power), 33 NC, 38 NC, 45 GND (power), 52 VCC (power), 57 NC, 67 GND (power), 68 VCC (power), 77 NC, 82 VCC (power), 89 GND (power), 101 NC, 106 GND (power), 109 GND (power), 110 VCC (power), 111 GND (power), 112 VCC (power), 113 VCC (power), 116 VCC (power), 121 NC, 126 NC, 133 GND (power), 140 VCC (power), 145 NC, 155 VCC (power), 156 GND (power), 165 NC, 170 VCC (power)

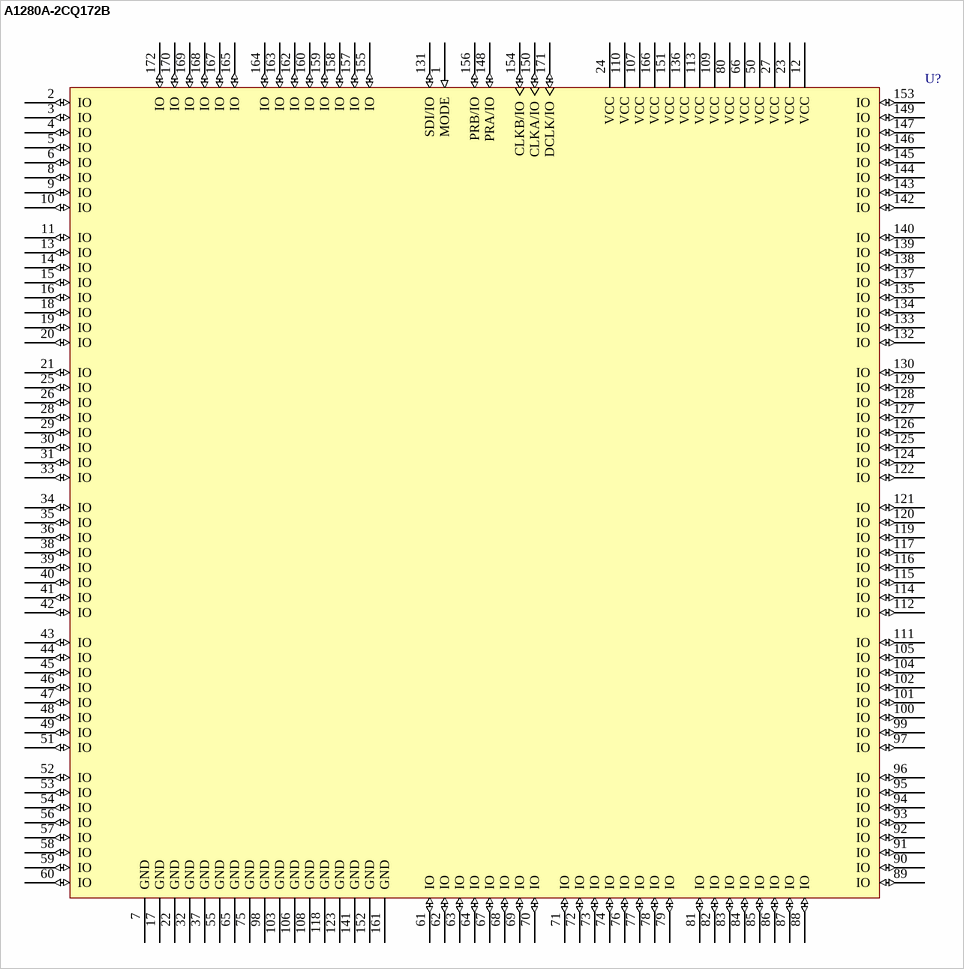
[diagram p27: symbol A1280A-2CQ172B]

## A1280A-2CQ172B
designator U?
ACT 2 Series 5V FPGA, 140 User I/Os, 172 pin CQFP, Speed Grade 2, MIL-STD-883 Grade; Published: 24-Nov-2000; LatestRevisionDate: 13-Apr-2006; LatestRevisionNote: IPC-7351 Footprint Added.; DatasheetVersion: ver4.0.1, Dec-2000; PackageVersion: v9.2, Apr-2006; PackageReference: CQ172; Publisher: Altium Limited; PackageDescription: 172-Pin Ceramic Quad Flat Pack (CQFP); Code_JEDEC: MO-113-AE; ComponentLink1Description: Manufacturer Link; ComponentLink1URL: http://www.actel.com/; ComponentLink2Description: DataSheet; ComponentLink2URL: http://www.actel.com/documents/ACT2DS.pdf
footprint CQ172_N (CQFP, 172-Leads, Body 30x30mm; Pitch 0.635mm, Gullwing Leadform, IPC Medium Density)
footprint CQ172_L (CQFP, 172-Leads, Body 30x30mm; Pitch 0.635mm, Gullwing Leadform, IPC High Density)
footprint CQ172_M (CQFP, 172-Leads, Body 30x30mm; Pitch 0.635mm, Gullwing Leadform, IPC Low Density)
3D model A1280A-CQ172 (172-Pin Ceramic Quad Flat Pack (CQFP))
pins: 1 MODE (in), 2 IO (io), 3 IO (io), 4 IO (io), 5 IO (io), 6 IO (io), 7 GND (power), 8 IO (io), 9 IO (io), 10 IO (io), 11 IO (io), 12 VCC (power), 13 IO (io), 14 IO (io), 15 IO (io), 16 IO (io), 17 GND (power), 18 IO (io), 19 IO (io), 20 IO (io), 21 IO (io), 22 GND (power), 23 VCC (power), 24 VCC (power), 25 IO (io), 26 IO (io), 27 VCC (power), 28 IO (io), 29 IO (io), 30 IO (io), 31 IO (io), 32 GND (power), 33 IO (io), 34 IO (io), 35 IO (io), 36 IO (io), 37 GND (power), 38 IO (io), 39 IO (io), 40 IO (io), 41 IO (io), 42 IO (io), 43 IO (io), 44 IO (io), 45 IO (io), 46 IO (io), 47 IO (io), 48 IO (io), 49 IO (io), 50 VCC (power), 51 IO (io), 52 IO (io), 53 IO (io), 54 IO (io), 55 GND (power), 56 IO (io), 57 IO (io), 58 IO (io), 59 IO (io), 60 IO (io), 61 IO (io), 62 IO (io), 63 IO (io), 64 IO (io), 65 GND (power), 66 VCC (power), 67 IO (io), 68 IO (io), 69 IO (io), 70 IO (io), 71 IO (io), 72 IO (io), 73 IO (io), 74 IO (io), 75 GND (power), 76 IO (io), 77 IO (io), 78 IO (io), 79 IO (io), 80 VCC (power), 81 IO (io), 82 IO (io), 83 IO (io), 84 IO (io), 85 IO (io), 86 IO (io), 87 IO (io), 88 IO (io), 89 IO (io), 90 IO (io), 91 IO (io), 92 IO (io), 93 IO (io), 94 IO (io), 95 IO (io), 96 IO (io), 97 IO (io), 98 GND (power), 99 IO (io), 100 IO (io), 101 IO (io), 102 IO (io), 103 GND (power), 104 IO (io), 105 IO (io), 106 GND (power), 107 VCC (power), 108 GND (power), 109 VCC (power), 110 VCC (power), 111 IO (io), 112 IO (io), 113 VCC (power), 114 IO (io), 115 IO (io), 116 IO (io), 117 IO (io), 118 GND (power), 119 IO (io), 120 IO (io), 121 IO (io), 122 IO (io), 123 GND (power), 124 IO (io), 125 IO (io), 126 IO (io), 127 IO (io), 128 IO (io), 129 IO (io), 130 IO (io), 131 SDI/IO (io), 132 IO (io), 133 IO (io), 134 IO (io), 135 IO (io), 136 VCC (power), 137 IO (io), 138 IO (io), 139 IO (io), 140 IO (io), 141 GND (power), 142 IO (io), 143 IO (io), 144 IO (io), 145 IO (io), 146 IO (io), 147 IO (io), 148 PRA/IO (io), 149 IO (io), 150 CLKA/IO (io), 151 VCC (power), 152 GND (power), 153 IO (io), 154 CLKB/IO (io), 155 IO (io), 156 PRB/IO (io), 157 IO (io), 158 IO (io), 159 IO (io), 160 IO (io), 161 GND (power), 162 IO (io), 163 IO (io), 164 IO (io), 165 IO (io), 166 VCC (power), 167 IO (io), 168 IO (io), 169 IO (io), 170 IO (io), 171 DCLK/IO (io), 172 IO (io)

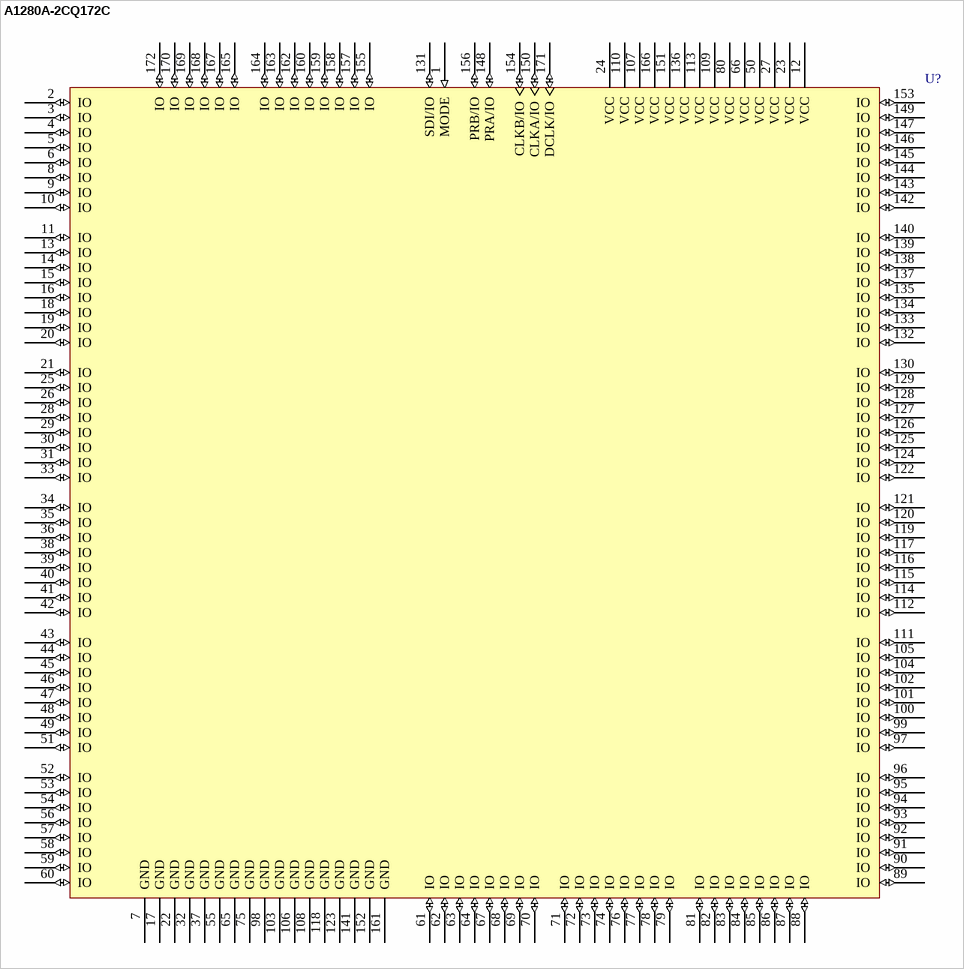
[diagram p28: symbol A1280A-2CQ172C]

## A1280A-2CQ172C
designator U?
ACT 2 Series 5V FPGA, 140 User I/Os, 172 pin CQFP, Speed Grade 2, Commercial Grade; Published: 24-Nov-2000; LatestRevisionDate: 13-Apr-2006; LatestRevisionNote: IPC-7351 Footprint Added.; DatasheetVersion: ver4.0.1, Dec-2000; PackageVersion: v9.2, Apr-2006; PackageReference: CQ172; Publisher: Altium Limited; PackageDescription: 172-Pin Ceramic Quad Flat Pack (CQFP); Code_JEDEC: MO-113-AE; ComponentLink1Description: Manufacturer Link; ComponentLink1URL: http://www.actel.com/; ComponentLink2Description: DataSheet; ComponentLink2URL: http://www.actel.com/documents/ACT2DS.pdf
footprint CQ172_N (CQFP, 172-Leads, Body 30x30mm; Pitch 0.635mm, Gullwing Leadform, IPC Medium Density)
footprint CQ172_L (CQFP, 172-Leads, Body 30x30mm; Pitch 0.635mm, Gullwing Leadform, IPC High Density)
footprint CQ172_M (CQFP, 172-Leads, Body 30x30mm; Pitch 0.635mm, Gullwing Leadform, IPC Low Density)
3D model A1280A-CQ172 (172-Pin Ceramic Quad Flat Pack (CQFP))
pins: 1 MODE (in), 2 IO (io), 3 IO (io), 4 IO (io), 5 IO (io), 6 IO (io), 7 GND (power), 8 IO (io), 9 IO (io), 10 IO (io), 11 IO (io), 12 VCC (power), 13 IO (io), 14 IO (io), 15 IO (io), 16 IO (io), 17 GND (power), 18 IO (io), 19 IO (io), 20 IO (io), 21 IO (io), 22 GND (power), 23 VCC (power), 24 VCC (power), 25 IO (io), 26 IO (io), 27 VCC (power), 28 IO (io), 29 IO (io), 30 IO (io), 31 IO (io), 32 GND (power), 33 IO (io), 34 IO (io), 35 IO (io), 36 IO (io), 37 GND (power), 38 IO (io), 39 IO (io), 40 IO (io), 41 IO (io), 42 IO (io), 43 IO (io), 44 IO (io), 45 IO (io), 46 IO (io), 47 IO (io), 48 IO (io), 49 IO (io), 50 VCC (power), 51 IO (io), 52 IO (io), 53 IO (io), 54 IO (io), 55 GND (power), 56 IO (io), 57 IO (io), 58 IO (io), 59 IO (io), 60 IO (io), 61 IO (io), 62 IO (io), 63 IO (io), 64 IO (io), 65 GND (power), 66 VCC (power), 67 IO (io), 68 IO (io), 69 IO (io), 70 IO (io), 71 IO (io), 72 IO (io), 73 IO (io), 74 IO (io), 75 GND (power), 76 IO (io), 77 IO (io), 78 IO (io), 79 IO (io), 80 VCC (power), 81 IO (io), 82 IO (io), 83 IO (io), 84 IO (io), 85 IO (io), 86 IO (io), 87 IO (io), 88 IO (io), 89 IO (io), 90 IO (io), 91 IO (io), 92 IO (io), 93 IO (io), 94 IO (io), 95 IO (io), 96 IO (io), 97 IO (io), 98 GND (power), 99 IO (io), 100 IO (io), 101 IO (io), 102 IO (io), 103 GND (power), 104 IO (io), 105 IO (io), 106 GND (power), 107 VCC (power), 108 GND (power), 109 VCC (power), 110 VCC (power), 111 IO (io), 112 IO (io), 113 VCC (power), 114 IO (io), 115 IO (io), 116 IO (io), 117 IO (io), 118 GND (power), 119 IO (io), 120 IO (io), 121 IO (io), 122 IO (io), 123 GND (power), 124 IO (io), 125 IO (io), 126 IO (io), 127 IO (io), 128 IO (io), 129 IO (io), 130 IO (io), 131 SDI/IO (io), 132 IO (io), 133 IO (io), 134 IO (io), 135 IO (io), 136 VCC (power), 137 IO (io), 138 IO (io), 139 IO (io), 140 IO (io), 141 GND (power), 142 IO (io), 143 IO (io), 144 IO (io), 145 IO (io), 146 IO (io), 147 IO (io), 148 PRA/IO (io), 149 IO (io), 150 CLKA/IO (io), 151 VCC (power), 152 GND (power), 153 IO (io), 154 CLKB/IO (io), 155 IO (io), 156 PRB/IO (io), 157 IO (io), 158 IO (io), 159 IO (io), 160 IO (io), 161 GND (power), 162 IO (io), 163 IO (io), 164 IO (io), 165 IO (io), 166 VCC (power), 167 IO (io), 168 IO (io), 169 IO (io), 170 IO (io), 171 DCLK/IO (io), 172 IO (io)

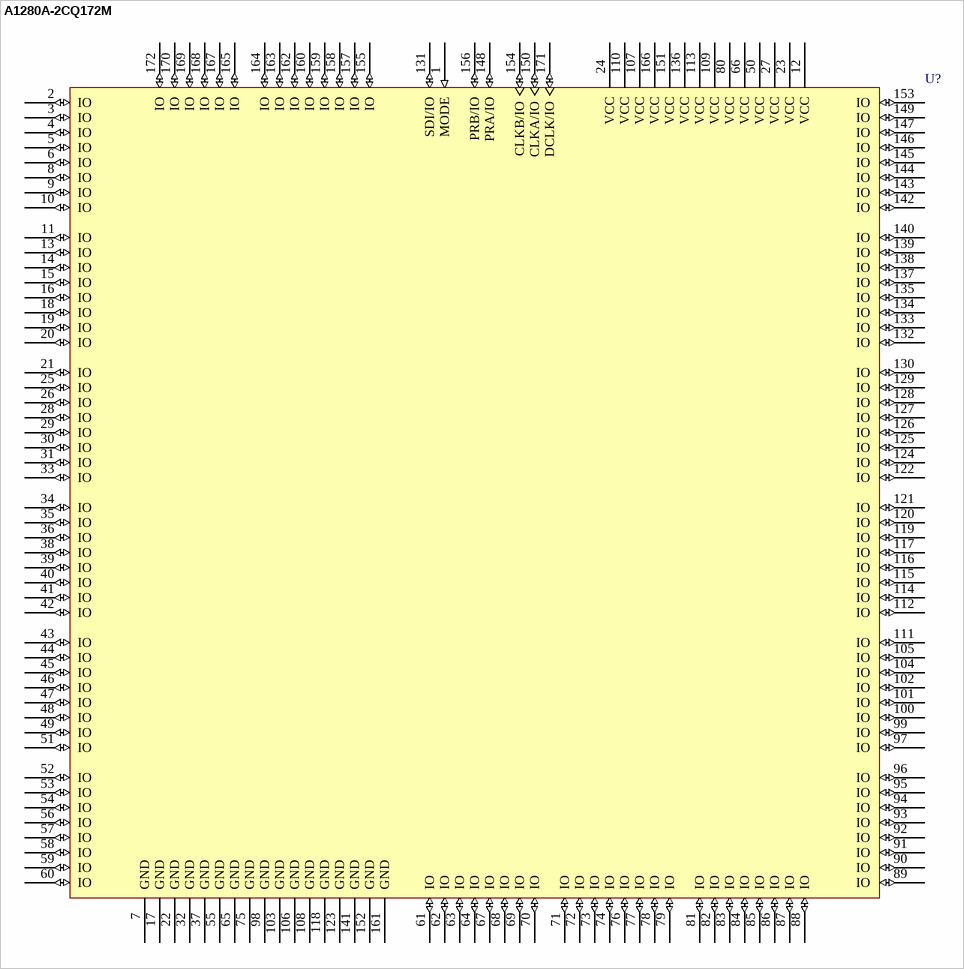
[diagram p29: symbol A1280A-2CQ172M]

## A1280A-2CQ172M
designator U?
ACT 2 Series 5V FPGA, 140 User I/Os, 172 pin CQFP, Speed Grade 2, Military Grade; Published: 24-Nov-2000; LatestRevisionDate: 13-Apr-2006; LatestRevisionNote: IPC-7351 Footprint Added.; DatasheetVersion: ver4.0.1, Dec-2000; PackageVersion: v9.2, Apr-2006; PackageReference: CQ172; Publisher: Altium Limited; PackageDescription: 172-Pin Ceramic Quad Flat Pack (CQFP); Code_JEDEC: MO-113-AE; ComponentLink1Description: Manufacturer Link; ComponentLink1URL: http://www.actel.com/; ComponentLink2Description: DataSheet; ComponentLink2URL: http://www.actel.com/documents/ACT2DS.pdf
footprint CQ172_N (CQFP, 172-Leads, Body 30x30mm; Pitch 0.635mm, Gullwing Leadform, IPC Medium Density)
footprint CQ172_L (CQFP, 172-Leads, Body 30x30mm; Pitch 0.635mm, Gullwing Leadform, IPC High Density)
footprint CQ172_M (CQFP, 172-Leads, Body 30x30mm; Pitch 0.635mm, Gullwing Leadform, IPC Low Density)
3D model A1280A-CQ172 (172-Pin Ceramic Quad Flat Pack (CQFP))
pins: 1 MODE (in), 2 IO (io), 3 IO (io), 4 IO (io), 5 IO (io), 6 IO (io), 7 GND (power), 8 IO (io), 9 IO (io), 10 IO (io), 11 IO (io), 12 VCC (power), 13 IO (io), 14 IO (io), 15 IO (io), 16 IO (io), 17 GND (power), 18 IO (io), 19 IO (io), 20 IO (io), 21 IO (io), 22 GND (power), 23 VCC (power), 24 VCC (power), 25 IO (io), 26 IO (io), 27 VCC (power), 28 IO (io), 29 IO (io), 30 IO (io), 31 IO (io), 32 GND (power), 33 IO (io), 34 IO (io), 35 IO (io), 36 IO (io), 37 GND (power), 38 IO (io), 39 IO (io), 40 IO (io), 41 IO (io), 42 IO (io), 43 IO (io), 44 IO (io), 45 IO (io), 46 IO (io), 47 IO (io), 48 IO (io), 49 IO (io), 50 VCC (power), 51 IO (io), 52 IO (io), 53 IO (io), 54 IO (io), 55 GND (power), 56 IO (io), 57 IO (io), 58 IO (io), 59 IO (io), 60 IO (io), 61 IO (io), 62 IO (io), 63 IO (io), 64 IO (io), 65 GND (power), 66 VCC (power), 67 IO (io), 68 IO (io), 69 IO (io), 70 IO (io), 71 IO (io), 72 IO (io), 73 IO (io), 74 IO (io), 75 GND (power), 76 IO (io), 77 IO (io), 78 IO (io), 79 IO (io), 80 VCC (power), 81 IO (io), 82 IO (io), 83 IO (io), 84 IO (io), 85 IO (io), 86 IO (io), 87 IO (io), 88 IO (io), 89 IO (io), 90 IO (io), 91 IO (io), 92 IO (io), 93 IO (io), 94 IO (io), 95 IO (io), 96 IO (io), 97 IO (io), 98 GND (power), 99 IO (io), 100 IO (io), 101 IO (io), 102 IO (io), 103 GND (power), 104 IO (io), 105 IO (io), 106 GND (power), 107 VCC (power), 108 GND (power), 109 VCC (power), 110 VCC (power), 111 IO (io), 112 IO (io), 113 VCC (power), 114 IO (io), 115 IO (io), 116 IO (io), 117 IO (io), 118 GND (power), 119 IO (io), 120 IO (io), 121 IO (io), 122 IO (io), 123 GND (power), 124 IO (io), 125 IO (io), 126 IO (io), 127 IO (io), 128 IO (io), 129 IO (io), 130 IO (io), 131 SDI/IO (io), 132 IO (io), 133 IO (io), 134 IO (io), 135 IO (io), 136 VCC (power), 137 IO (io), 138 IO (io), 139 IO (io), 140 IO (io), 141 GND (power), 142 IO (io), 143 IO (io), 144 IO (io), 145 IO (io), 146 IO (io), 147 IO (io), 148 PRA/IO (io), 149 IO (io), 150 CLKA/IO (io), 151 VCC (power), 152 GND (power), 153 IO (io), 154 CLKB/IO (io), 155 IO (io), 156 PRB/IO (io), 157 IO (io), 158 IO (io), 159 IO (io), 160 IO (io), 161 GND (power), 162 IO (io), 163 IO (io), 164 IO (io), 165 IO (io), 166 VCC (power), 167 IO (io), 168 IO (io), 169 IO (io), 170 IO (io), 171 DCLK/IO (io), 172 IO (io)

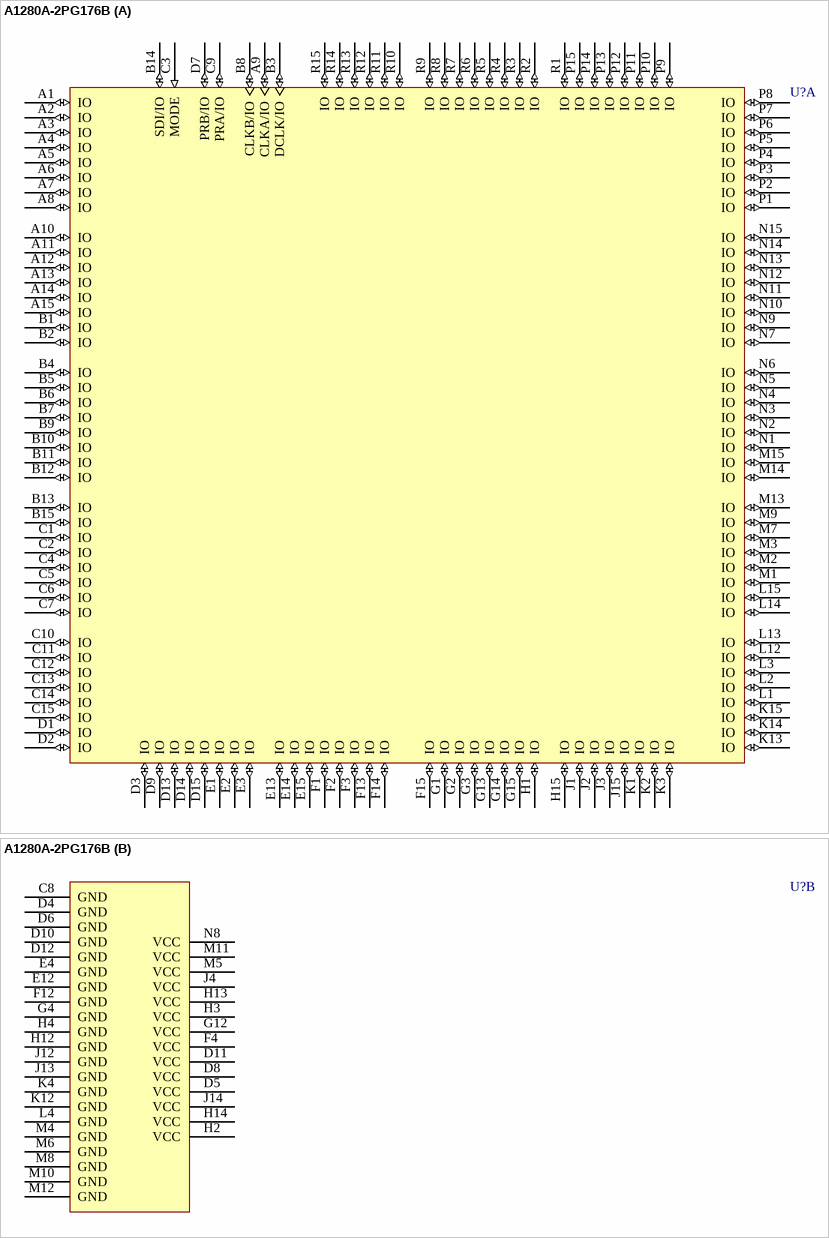
[diagram p30: symbol A1280A-2PG176B]

## A1280A-2PG176B
designator U?
ACT 2 Series 5V FPGA, 140 User I/Os, 176 pin CPGA, Speed Grade 2, MIL-STD-883 Grade; Published: 17-Sep-2003; LatestRevisionDate: 04-Mar-2005; LatestRevisionNote: Stylized 3D Model Added.; DatasheetVersion: ver4.0.1, Dec-2000; PackageVersion: v9.2, Apr-2006; PackageReference: PG176; Publisher: Altium Limited; PackageDescription: 176-Pin Ceramic Pin Grid Array (PG176); ComponentLink1Description: Manufacturer Link; ComponentLink1URL: http://www.actel.com/; ComponentLink2Description: DataSheet; ComponentLink2URL: http://www.actel.com/documents/ACT2DS.pdf
footprint PG176 (PGA, 176-Leads, Body 39.9x39.9mm, Pitch 2.54mm)
3D model A1280A-PG176 (176-Pin Ceramic Pin Grid Array (PG176))
part A pins: A1 IO (io), A2 IO (io), A3 IO (io), A4 IO (io), A5 IO (io), A6 IO (io), A7 IO (io), A8 IO (io), A9 CLKA/IO (io), A10 IO (io), A11 IO (io), A12 IO (io), A13 IO (io), A14 IO (io), A15 IO (io), B1 IO (io), B2 IO (io), B3 DCLK/IO (io), B4 IO (io), B5 IO (io), B6 IO (io), B7 IO (io), B8 CLKB/IO (io), B9 IO (io), B10 IO (io), B11 IO (io), B12 IO (io), B13 IO (io), B14 SDI/IO (io), B15 IO (io), C1 IO (io), C2 IO (io), C3 MODE (in), C4 IO (io), C5 IO (io), C6 IO (io), C7 IO (io), C9 PRA/IO (io), C10 IO (io), C11 IO (io), C12 IO (io), C13 IO (io), C14 IO (io), C15 IO (io), D1 IO (io), D2 IO (io), D3 IO (io), D7 PRB/IO (io), D9 IO (io), D13 IO (io), D14 IO (io), D15 IO (io), E1 IO (io), E2 IO (io), E3 IO (io), E13 IO (io), E14 IO (io), E15 IO (io), F1 IO (io), F2 IO (io), F3 IO (io), F13 IO (io), F14 IO (io), F15 IO (io), G1 IO (io), G2 IO (io), G3 IO (io), G13 IO (io), G14 IO (io), G15 IO (io), H1 IO (io), H15 IO (io), J1 IO (io), J2 IO (io), J3 IO (io), J15 IO (io), K1 IO (io), K2 IO (io), K3 IO (io), K13 IO (io), K14 IO (io), K15 IO (io), L1 IO (io), L2 IO (io), L3 IO (io), L12 IO (io), L13 IO (io), L14 IO (io), L15 IO (io), M1 IO (io), M2 IO (io), M3 IO (io), M7 IO (io), M9 IO (io), M13 IO (io), M14 IO (io), M15 IO (io), N1 IO (io), N2 IO (io), N3 IO (io), N4 IO (io), N5 IO (io), N6 IO (io), N7 IO (io), N9 IO (io), N10 IO (io), N11 IO (io), N12 IO (io), N13 IO (io), N14 IO (io), N15 IO (io), P1 IO (io), P2 IO (io), P3 IO (io), P4 IO (io), P5 IO (io), P6 IO (io), P7 IO (io), P8 IO (io), P9 IO (io), P10 IO (io), P11 IO (io), P12 IO (io), P13 IO (io), P14 IO (io), P15 IO (io), R1 IO (io), R2 IO (io), R3 IO (io), R4 IO (io), R5 IO (io), R6 IO (io), R7 IO (io), R8 IO (io), R9 IO (io), R10 IO (io), R11 IO (io), R12 IO (io), R13 IO (io), R14 IO (io), R15 IO (io)
part B pins: C8 GND (power), D4 GND (power), D5 VCC (power), D6 GND (power), D8 VCC (power), D10 GND (power), D11 VCC (power), D12 GND (power), E4 GND (power), E12 GND (power), F4 VCC (power), F12 GND (power), G4 GND (power), G12 VCC (power), H2 VCC (power), H3 VCC (power), H4 GND (power), H12 GND (power), H13 VCC (power), H14 VCC (power), J4 VCC (power), J12 GND (power), J13 GND (power), J14 VCC (power), K4 GND (power), K12 GND (power), L4 GND (power), M4 GND (power), M5 VCC (power), M6 GND (power), M8 GND (power), M10 GND (power), M11 VCC (power), M12 GND (power), N8 VCC (power)

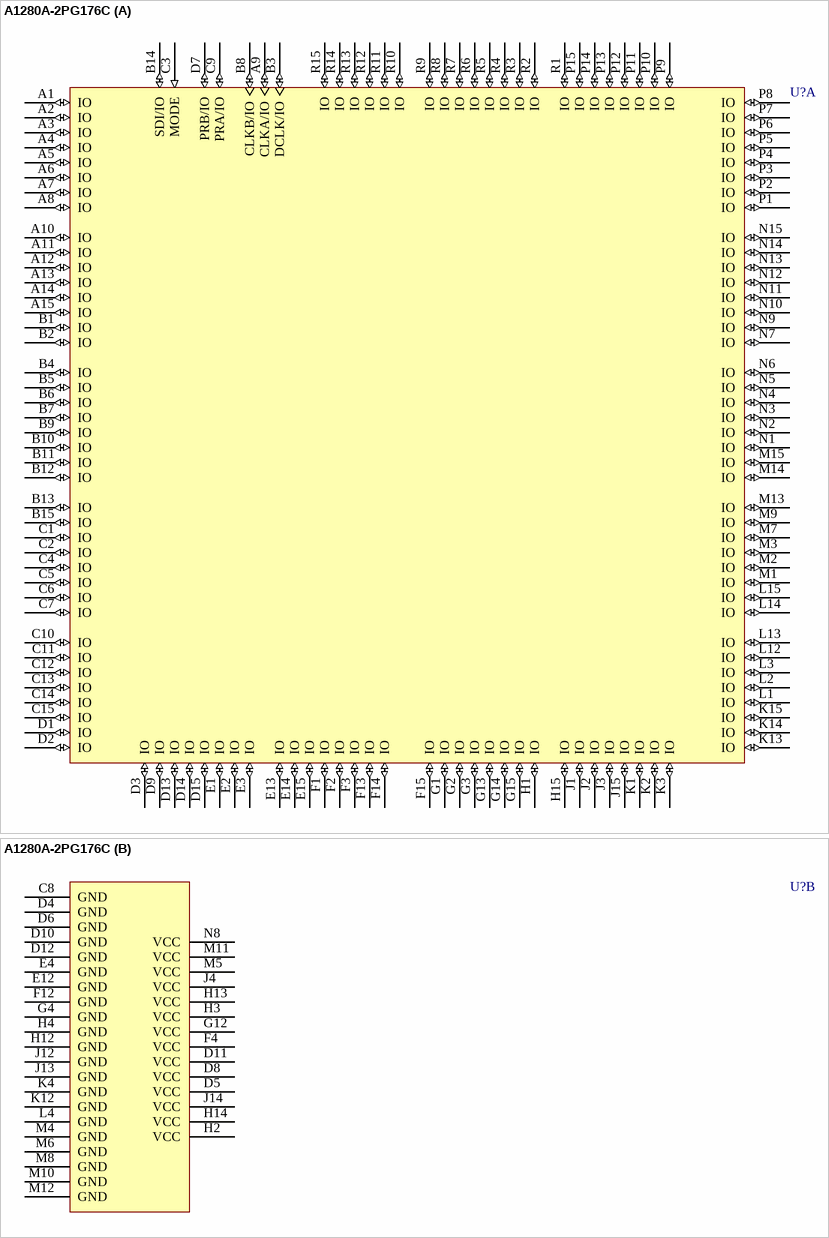
[diagram p31: symbol A1280A-2PG176C]

## A1280A-2PG176C
designator U?
ACT 2 Series 5V FPGA, 140 User I/Os, 176 pin CPGA, Speed Grade 2, Commercial Grade; Published: 24-Nov-2000; LatestRevisionDate: 04-Mar-2005; LatestRevisionNote: Stylized 3D Model Added.; DatasheetVersion: ver4.0.1, Dec-2000; PackageVersion: v9.2, Apr-2006; PackageReference: PG176; Publisher: Altium Limited; PackageDescription: 176-Pin Ceramic Pin Grid Array (PG176); ComponentLink1Description: Manufacturer Link; ComponentLink1URL: http://www.actel.com/; ComponentLink2Description: DataSheet; ComponentLink2URL: http://www.actel.com/documents/ACT2DS.pdf
footprint PG176 (PGA, 176-Leads, Body 39.9x39.9mm, Pitch 2.54mm)
3D model A1280A-PG176 (176-Pin Ceramic Pin Grid Array (PG176))
part A pins: A1 IO (io), A2 IO (io), A3 IO (io), A4 IO (io), A5 IO (io), A6 IO (io), A7 IO (io), A8 IO (io), A9 CLKA/IO (io), A10 IO (io), A11 IO (io), A12 IO (io), A13 IO (io), A14 IO (io), A15 IO (io), B1 IO (io), B2 IO (io), B3 DCLK/IO (io), B4 IO (io), B5 IO (io), B6 IO (io), B7 IO (io), B8 CLKB/IO (io), B9 IO (io), B10 IO (io), B11 IO (io), B12 IO (io), B13 IO (io), B14 SDI/IO (io), B15 IO (io), C1 IO (io), C2 IO (io), C3 MODE (in), C4 IO (io), C5 IO (io), C6 IO (io), C7 IO (io), C9 PRA/IO (io), C10 IO (io), C11 IO (io), C12 IO (io), C13 IO (io), C14 IO (io), C15 IO (io), D1 IO (io), D2 IO (io), D3 IO (io), D7 PRB/IO (io), D9 IO (io), D13 IO (io), D14 IO (io), D15 IO (io), E1 IO (io), E2 IO (io), E3 IO (io), E13 IO (io), E14 IO (io), E15 IO (io), F1 IO (io), F2 IO (io), F3 IO (io), F13 IO (io), F14 IO (io), F15 IO (io), G1 IO (io), G2 IO (io), G3 IO (io), G13 IO (io), G14 IO (io), G15 IO (io), H1 IO (io), H15 IO (io), J1 IO (io), J2 IO (io), J3 IO (io), J15 IO (io), K1 IO (io), K2 IO (io), K3 IO (io), K13 IO (io), K14 IO (io), K15 IO (io), L1 IO (io), L2 IO (io), L3 IO (io), L12 IO (io), L13 IO (io), L14 IO (io), L15 IO (io), M1 IO (io), M2 IO (io), M3 IO (io), M7 IO (io), M9 IO (io), M13 IO (io), M14 IO (io), M15 IO (io), N1 IO (io), N2 IO (io), N3 IO (io), N4 IO (io), N5 IO (io), N6 IO (io), N7 IO (io), N9 IO (io), N10 IO (io), N11 IO (io), N12 IO (io), N13 IO (io), N14 IO (io), N15 IO (io), P1 IO (io), P2 IO (io), P3 IO (io), P4 IO (io), P5 IO (io), P6 IO (io), P7 IO (io), P8 IO (io), P9 IO (io), P10 IO (io), P11 IO (io), P12 IO (io), P13 IO (io), P14 IO (io), P15 IO (io), R1 IO (io), R2 IO (io), R3 IO (io), R4 IO (io), R5 IO (io), R6 IO (io), R7 IO (io), R8 IO (io), R9 IO (io), R10 IO (io), R11 IO (io), R12 IO (io), R13 IO (io), R14 IO (io), R15 IO (io)
part B pins: C8 GND (power), D4 GND (power), D5 VCC (power), D6 GND (power), D8 VCC (power), D10 GND (power), D11 VCC (power), D12 GND (power), E4 GND (power), E12 GND (power), F4 VCC (power), F12 GND (power), G4 GND (power), G12 VCC (power), H2 VCC (power), H3 VCC (power), H4 GND (power), H12 GND (power), H13 VCC (power), H14 VCC (power), J4 VCC (power), J12 GND (power), J13 GND (power), J14 VCC (power), K4 GND (power), K12 GND (power), L4 GND (power), M4 GND (power), M5 VCC (power), M6 GND (power), M8 GND (power), M10 GND (power), M11 VCC (power), M12 GND (power), N8 VCC (power)

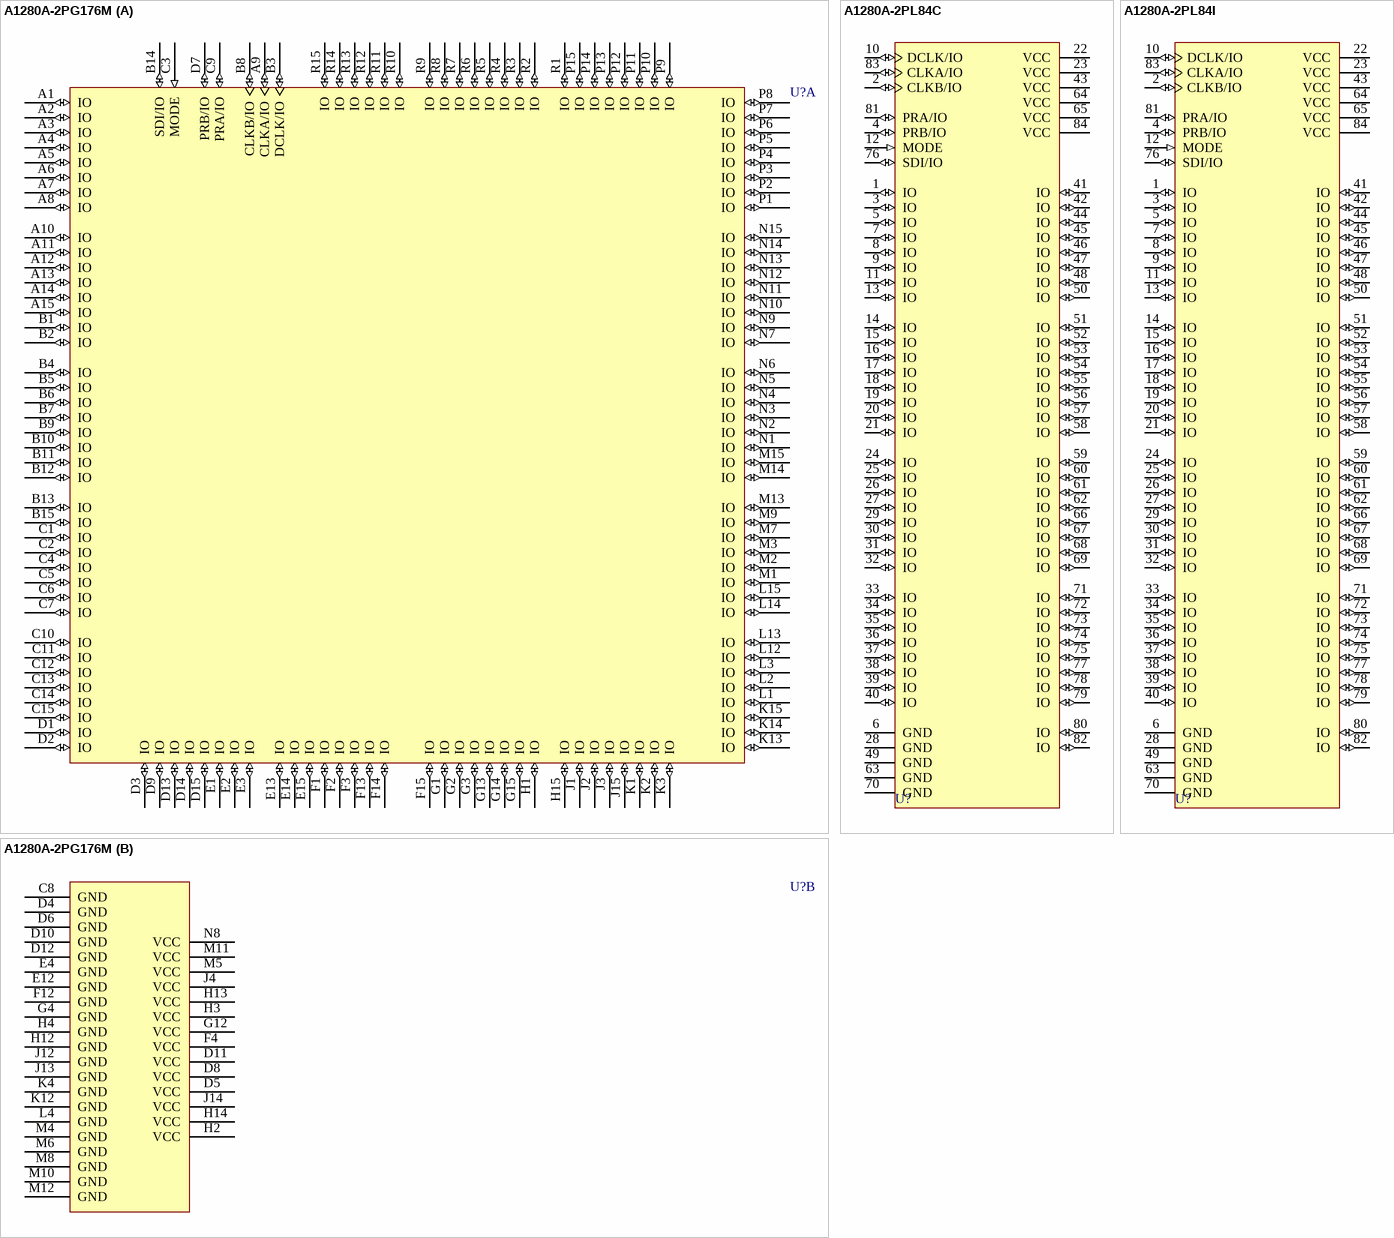
[diagram p32: symbols A1280A-2PG176M to A1280A-2PL84I]

## A1280A-2PG176M
designator U?
ACT 2 Series 5V FPGA, 140 User I/Os, 176 pin CPGA, Speed Grade 2, Military Grade; Published: 17-Sep-2003; LatestRevisionDate: 04-Mar-2005; LatestRevisionNote: Stylized 3D Model Added.; DatasheetVersion: ver4.0.1, Dec-2000; PackageVersion: v9.2, Apr-2006; PackageReference: PG176; Publisher: Altium Limited; PackageDescription: 176-Pin Ceramic Pin Grid Array (PG176); ComponentLink1Description: Manufacturer Link; ComponentLink1URL: http://www.actel.com/; ComponentLink2Description: DataSheet; ComponentLink2URL: http://www.actel.com/documents/ACT2DS.pdf
footprint PG176 (PGA, 176-Leads, Body 39.9x39.9mm, Pitch 2.54mm)
3D model A1280A-PG176 (176-Pin Ceramic Pin Grid Array (PG176))
part A pins: A1 IO (io), A2 IO (io), A3 IO (io), A4 IO (io), A5 IO (io), A6 IO (io), A7 IO (io), A8 IO (io), A9 CLKA/IO (io), A10 IO (io), A11 IO (io), A12 IO (io), A13 IO (io), A14 IO (io), A15 IO (io), B1 IO (io), B2 IO (io), B3 DCLK/IO (io), B4 IO (io), B5 IO (io), B6 IO (io), B7 IO (io), B8 CLKB/IO (io), B9 IO (io), B10 IO (io), B11 IO (io), B12 IO (io), B13 IO (io), B14 SDI/IO (io), B15 IO (io), C1 IO (io), C2 IO (io), C3 MODE (in), C4 IO (io), C5 IO (io), C6 IO (io), C7 IO (io), C9 PRA/IO (io), C10 IO (io), C11 IO (io), C12 IO (io), C13 IO (io), C14 IO (io), C15 IO (io), D1 IO (io), D2 IO (io), D3 IO (io), D7 PRB/IO (io), D9 IO (io), D13 IO (io), D14 IO (io), D15 IO (io), E1 IO (io), E2 IO (io), E3 IO (io), E13 IO (io), E14 IO (io), E15 IO (io), F1 IO (io), F2 IO (io), F3 IO (io), F13 IO (io), F14 IO (io), F15 IO (io), G1 IO (io), G2 IO (io), G3 IO (io), G13 IO (io), G14 IO (io), G15 IO (io), H1 IO (io), H15 IO (io), J1 IO (io), J2 IO (io), J3 IO (io), J15 IO (io), K1 IO (io), K2 IO (io), K3 IO (io), K13 IO (io), K14 IO (io), K15 IO (io), L1 IO (io), L2 IO (io), L3 IO (io), L12 IO (io), L13 IO (io), L14 IO (io), L15 IO (io), M1 IO (io), M2 IO (io), M3 IO (io), M7 IO (io), M9 IO (io), M13 IO (io), M14 IO (io), M15 IO (io), N1 IO (io), N2 IO (io), N3 IO (io), N4 IO (io), N5 IO (io), N6 IO (io), N7 IO (io), N9 IO (io), N10 IO (io), N11 IO (io), N12 IO (io), N13 IO (io), N14 IO (io), N15 IO (io), P1 IO (io), P2 IO (io), P3 IO (io), P4 IO (io), P5 IO (io), P6 IO (io), P7 IO (io), P8 IO (io), P9 IO (io), P10 IO (io), P11 IO (io), P12 IO (io), P13 IO (io), P14 IO (io), P15 IO (io), R1 IO (io), R2 IO (io), R3 IO (io), R4 IO (io), R5 IO (io), R6 IO (io), R7 IO (io), R8 IO (io), R9 IO (io), R10 IO (io), R11 IO (io), R12 IO (io), R13 IO (io), R14 IO (io), R15 IO (io)
part B pins: C8 GND (power), D4 GND (power), D5 VCC (power), D6 GND (power), D8 VCC (power), D10 GND (power), D11 VCC (power), D12 GND (power), E4 GND (power), E12 GND (power), F4 VCC (power), F12 GND (power), G4 GND (power), G12 VCC (power), H2 VCC (power), H3 VCC (power), H4 GND (power), H12 GND (power), H13 VCC (power), H14 VCC (power), J4 VCC (power), J12 GND (power), J13 GND (power), J14 VCC (power), K4 GND (power), K12 GND (power), L4 GND (power), M4 GND (power), M5 VCC (power), M6 GND (power), M8 GND (power), M10 GND (power), M11 VCC (power), M12 GND (power), N8 VCC (power)

## A1280A-2PL84C
designator U?
ACT 2 Series 5V FPGA, 72 User I/Os, 84 pin PLCC, Speed Grade 2, Commercial Grade; Note: {VPP=VCC, VSC=VCC, VKS=GND} except during device programming; MODE = GND, except during device programming or debugging.; Published: 24-Nov-2000; LatestRevisionDate: 13-Apr-2006; LatestRevisionNote: IPC-7351 Footprint Added.; DatasheetVersion: May-1995; PackageVersion: v9.2, Apr-2006; PackageReference: PL84; Publisher: Altium Limited; PackageDescription: 84-Pin Plastic Leaded Chip Carrier (PL84); Code_JEDEC: MS-018-AF; Code_IPC: PLCC-84; ComponentLink1Description: Manufacturer Link; ComponentLink1URL: http://www.actel.com/
footprint PL84_N (Leaded Chip Carrier, 84-Leads, Body 29.3x29.3mm, Pitch 1.27mm, IPC Medium Density)
footprint PL84_L (Leaded Chip Carrier, 84-Leads, Body 29.3x29.3mm, Pitch 1.27mm, IPC High Density)
footprint PL84_M (Leaded Chip Carrier, 84-Leads, Body 29.3x29.3mm, Pitch 1.27mm, IPC Low Density)
3D model A1280A-PL84 (84-Pin Plastic Leaded Chip Carrier (PL84))
pins: 1 IO (io), 2 CLKB/IO (io), 3 IO (io), 4 PRB/IO (io), 5 IO (io), 6 GND (power), 7 IO (io), 8 IO (io), 9 IO (io), 10 DCLK/IO (io), 11 IO (io), 12 MODE (in), 13 IO (io), 14 IO (io), 15 IO (io), 16 IO (io), 17 IO (io), 18 IO (io), 19 IO (io), 20 IO (io), 21 IO (io), 22 VCC (power), 23 VCC (power), 24 IO (io), 25 IO (io), 26 IO (io), 27 IO (io), 28 GND (power), 29 IO (io), 30 IO (io), 31 IO (io), 32 IO (io), 33 IO (io), 34 IO (io), 35 IO (io), 36 IO (io), 37 IO (io), 38 IO (io), 39 IO (io), 40 IO (io), 41 IO (io), 42 IO (io), 43 VCC (power), 44 IO (io), 45 IO (io), 46 IO (io), 47 IO (io), 48 IO (io), 49 GND (power), 50 IO (io), 51 IO (io), 52 IO (io), 53 IO (io), 54 IO (io), 55 IO (io), 56 IO (io), 57 IO (io), 58 IO (io), 59 IO (io), 60 IO (io), 61 IO (io), 62 IO (io), 63 GND (power), 64 VCC (power), 65 VCC (power), 66 IO (io), 67 IO (io), 68 IO (io), 69 IO (io), 70 GND (power), 71 IO (io), 72 IO (io), 73 IO (io), 74 IO (io), 75 IO (io), 76 SDI/IO (io), 77 IO (io), 78 IO (io), 79 IO (io), 80 IO (io), 81 PRA/IO (io), 82 IO (io), 83 CLKA/IO (io), 84 VCC (power)

## A1280A-2PL84I
designator U?
ACT 2 Series 5V FPGA, 72 User I/Os, 84 pin PLCC, Speed Grade 2, Industrial Grade; Note: {VPP=VCC, VSC=VCC, VKS=GND} except during device programming; MODE = GND, except during device programming or debugging.; Published: 24-Nov-2000; LatestRevisionDate: 13-Apr-2006; LatestRevisionNote: IPC-7351 Footprint Added.; DatasheetVersion: May-1995; PackageVersion: v9.2, Apr-2006; PackageReference: PL84; Publisher: Altium Limited; PackageDescription: 84-Pin Plastic Leaded Chip Carrier (PL84); Code_JEDEC: MS-018-AF; Code_IPC: PLCC-84; ComponentLink1Description: Manufacturer Link; ComponentLink1URL: http://www.actel.com/
footprint PL84_N (Leaded Chip Carrier, 84-Leads, Body 29.3x29.3mm, Pitch 1.27mm, IPC Medium Density)
footprint PL84_L (Leaded Chip Carrier, 84-Leads, Body 29.3x29.3mm, Pitch 1.27mm, IPC High Density)
footprint PL84_M (Leaded Chip Carrier, 84-Leads, Body 29.3x29.3mm, Pitch 1.27mm, IPC Low Density)
3D model A1280A-PL84 (84-Pin Plastic Leaded Chip Carrier (PL84))
pins: 1 IO (io), 2 CLKB/IO (io), 3 IO (io), 4 PRB/IO (io), 5 IO (io), 6 GND (power), 7 IO (io), 8 IO (io), 9 IO (io), 10 DCLK/IO (io), 11 IO (io), 12 MODE (in), 13 IO (io), 14 IO (io), 15 IO (io), 16 IO (io), 17 IO (io), 18 IO (io), 19 IO (io), 20 IO (io), 21 IO (io), 22 VCC (power), 23 VCC (power), 24 IO (io), 25 IO (io), 26 IO (io), 27 IO (io), 28 GND (power), 29 IO (io), 30 IO (io), 31 IO (io), 32 IO (io), 33 IO (io), 34 IO (io), 35 IO (io), 36 IO (io), 37 IO (io), 38 IO (io), 39 IO (io), 40 IO (io), 41 IO (io), 42 IO (io), 43 VCC (power), 44 IO (io), 45 IO (io), 46 IO (io), 47 IO (io), 48 IO (io), 49 GND (power), 50 IO (io), 51 IO (io), 52 IO (io), 53 IO (io), 54 IO (io), 55 IO (io), 56 IO (io), 57 IO (io), 58 IO (io), 59 IO (io), 60 IO (io), 61 IO (io), 62 IO (io), 63 GND (power), 64 VCC (power), 65 VCC (power), 66 IO (io), 67 IO (io), 68 IO (io), 69 IO (io), 70 GND (power), 71 IO (io), 72 IO (io), 73 IO (io), 74 IO (io), 75 IO (io), 76 SDI/IO (io), 77 IO (io), 78 IO (io), 79 IO (io), 80 IO (io), 81 PRA/IO (io), 82 IO (io), 83 CLKA/IO (io), 84 VCC (power)

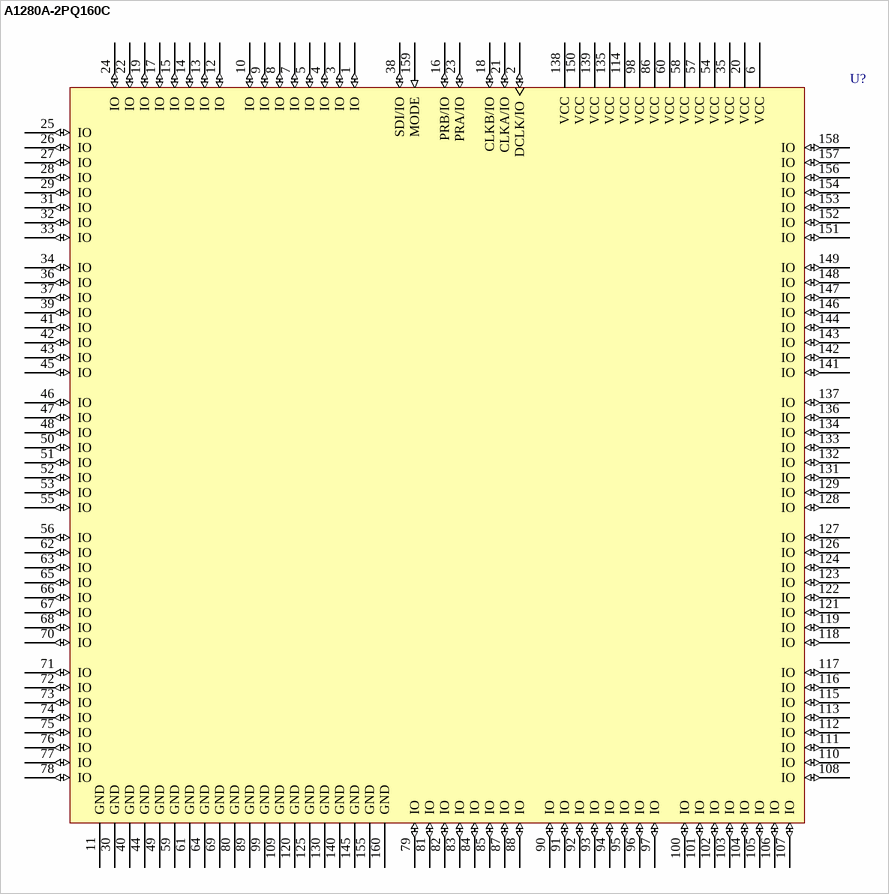
[diagram p33: symbol A1280A-2PQ160C]